# Altium integrated library Actel ProASIC.IntLib: 30 symbols (part 1 of 4)
Pins are listed as number, name and electrical type; pins without a type are passive.

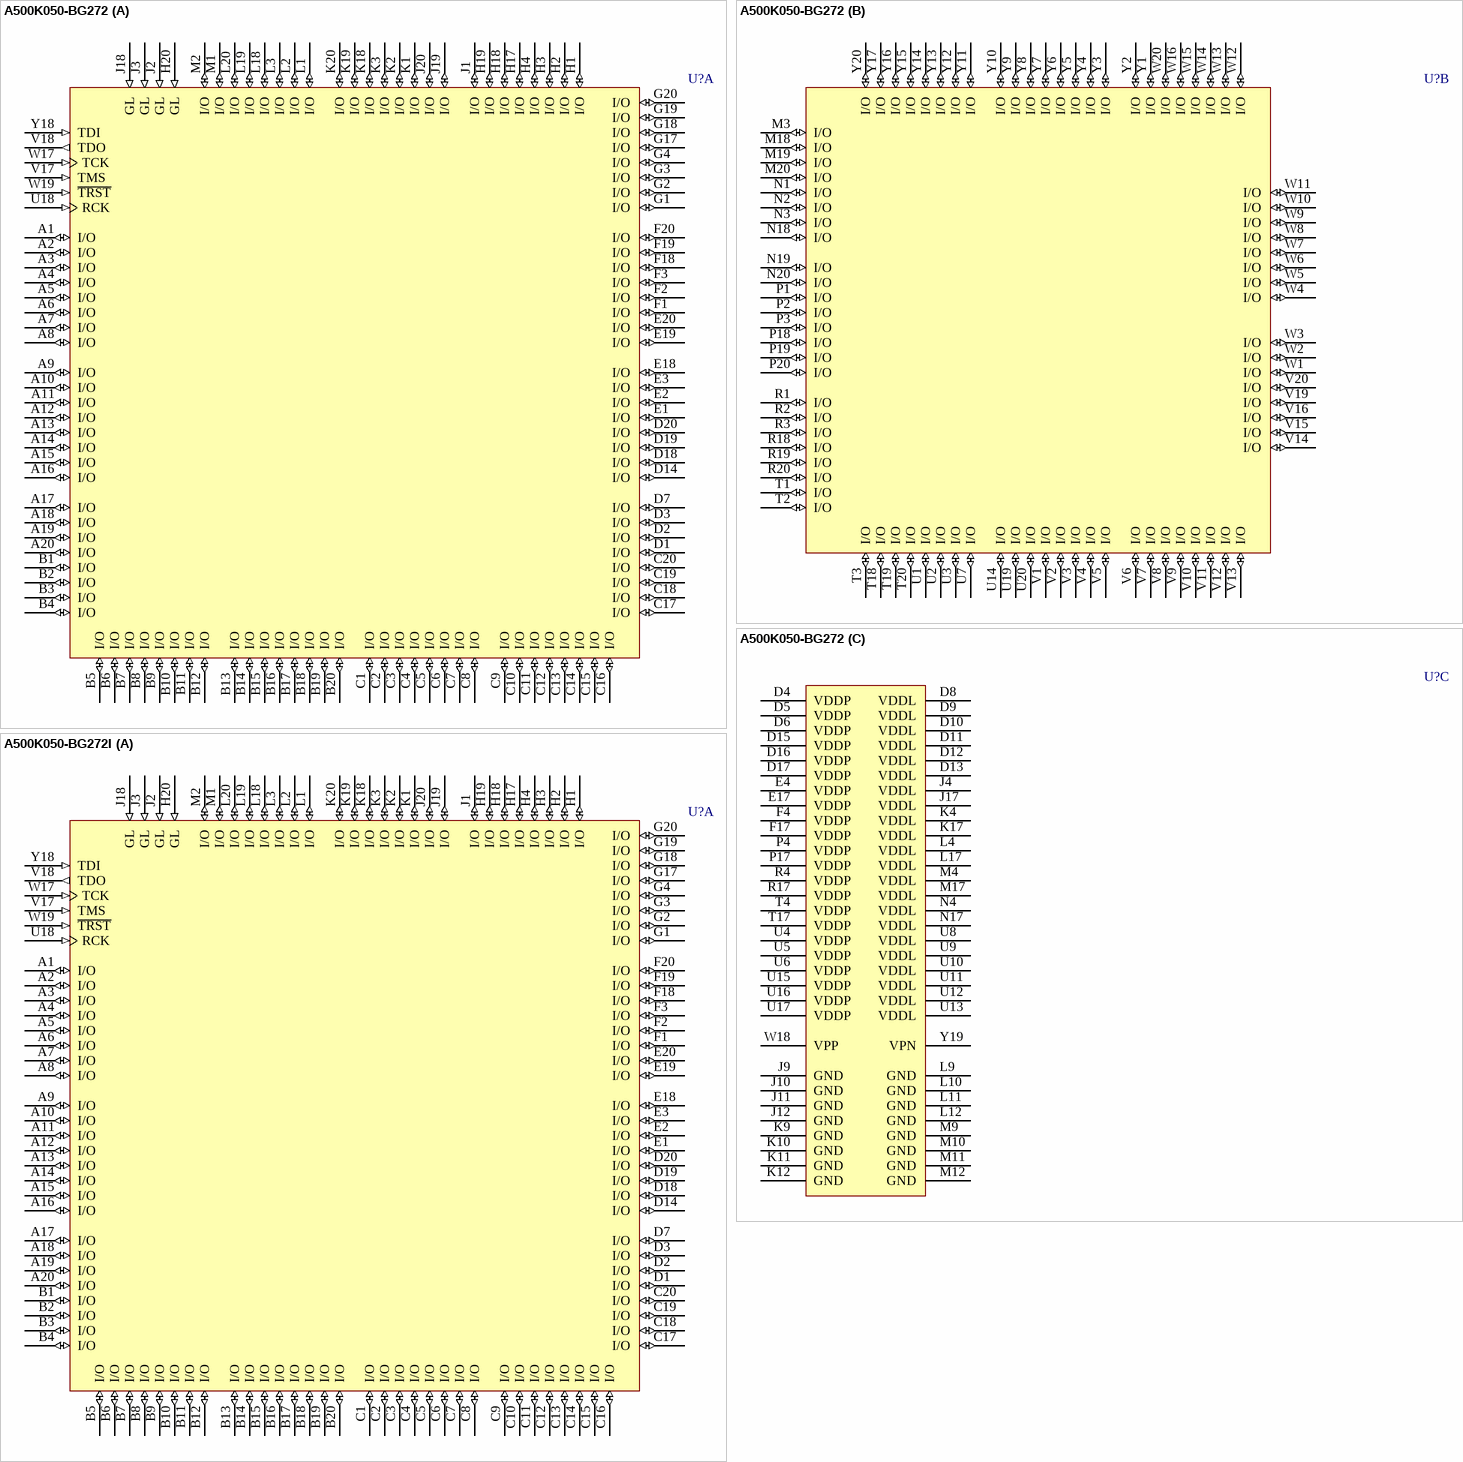
[diagram p0: symbols A500K050-BG272 to A500K050-BG272I]

## A500K050-BG272
designator U?
ProASIC 500K50, 204 User IOs, 272-Ball PBGA, Speed Grade Standard, Commercial Grade; ComponentAvailability: ProASIC 500K family discontinued.; Published: 21-May-2003; LatestRevisionDate: 13-Apr-2006; LatestRevisionNote: IPC-7351 Footprint Added.; DatasheetVersion: v3.0, Feb-2002; PackageVersion: ver11.2, Nov-2009; PackageReference: BG272; Publisher: Altium Limited; PackageDescription: 272-Ball Plastic Ball Grid Array (BG272); Code_JEDEC: MS-034-BAL-2; ComponentLink1Description: ProASIC Datasheet; ComponentLink1URL: http://www.actel.com/documents/ProASIC_DS.pdf; ComponentLink2Description: Package Mechanical Drawings; ComponentLink2URL: http://www.actel.com/documents/PckgMechDrwngs.pdf; ComponentLink3Description: ProASIC Documents; ComponentLink3URL: http://www.actel.com/products/discontinued/default.aspx#proasic; ComponentLink4Description: Actel.com Home; ComponentLink4URL: http://www.actel.com/
footprint BG272 (BGA, 272-Leads, Body 27x27mm, Pitch 1.27mm)
part A pins: A1 I/O (io), A2 I/O (io), A3 I/O (io), A4 I/O (io), A5 I/O (io), A6 I/O (io), A7 I/O (io), A8 I/O (io), A9 I/O (io), A10 I/O (io), A11 I/O (io), A12 I/O (io), A13 I/O (io), A14 I/O (io), A15 I/O (io), A16 I/O (io), A17 I/O (io), A18 I/O (io), A19 I/O (io), A20 I/O (io), B1 I/O (io), B2 I/O (io), B3 I/O (io), B4 I/O (io), B5 I/O (io), B6 I/O (io), B7 I/O (io), B8 I/O (io), B9 I/O (io), B10 I/O (io), B11 I/O (io), B12 I/O (io), B13 I/O (io), B14 I/O (io), B15 I/O (io), B16 I/O (io), B17 I/O (io), B18 I/O (io), B19 I/O (io), B20 I/O (io), C1 I/O (io), C2 I/O (io), C3 I/O (io), C4 I/O (io), C5 I/O (io), C6 I/O (io), C7 I/O (io), C8 I/O (io), C9 I/O (io), C10 I/O (io), C11 I/O (io), C12 I/O (io), C13 I/O (io), C14 I/O (io), C15 I/O (io), C16 I/O (io), C17 I/O (io), C18 I/O (io), C19 I/O (io), C20 I/O (io), D1 I/O (io), D2 I/O (io), D3 I/O (io), D7 I/O (io), D14 I/O (io), D18 I/O (io), D19 I/O (io), D20 I/O (io), E1 I/O (io), E2 I/O (io), E3 I/O (io), E18 I/O (io), E19 I/O (io), E20 I/O (io), F1 I/O (io), F2 I/O (io), F3 I/O (io), F18 I/O (io), F19 I/O (io), F20 I/O (io), G1 I/O (io), G2 I/O (io), G3 I/O (io), G4 I/O (io), G17 I/O (io), G18 I/O (io), G19 I/O (io), G20 I/O (io), H1 I/O (io), H2 I/O (io), H3 I/O (io), H4 I/O (io), H17 I/O (io), H18 I/O (io), H19 I/O (io), H20 GL (in), J1 I/O (io), J2 GL (in), J3 GL (in), J18 GL (in), J19 I/O (io), J20 I/O (io), K1 I/O (io), K2 I/O (io), K3 I/O (io), K18 I/O (io), K19 I/O (io), K20 I/O (io), L1 I/O (io), L2 I/O (io), L3 I/O (io), L18 I/O (io), L19 I/O (io), L20 I/O (io), M1 I/O (io), M2 I/O (io), U18 RCK (in), V17 TMS (in), V18 TDO (out), W17 TCK (in), W19 ~{TRST} (in), Y18 TDI (in)
part B pins: M3 I/O (io), M18 I/O (io), M19 I/O (io), M20 I/O (io), N1 I/O (io), N2 I/O (io), N3 I/O (io), N18 I/O (io), N19 I/O (io), N20 I/O (io), P1 I/O (io), P2 I/O (io), P3 I/O (io), P18 I/O (io), P19 I/O (io), P20 I/O (io), R1 I/O (io), R2 I/O (io), R3 I/O (io), R18 I/O (io), R19 I/O (io), R20 I/O (io), T1 I/O (io), T2 I/O (io), T3 I/O (io), T18 I/O (io), T19 I/O (io), T20 I/O (io), U1 I/O (io), U2 I/O (io), U3 I/O (io), U7 I/O (io), U14 I/O (io), U19 I/O (io), U20 I/O (io), V1 I/O (io), V2 I/O (io), V3 I/O (io), V4 I/O (io), V5 I/O (io), V6 I/O (io), V7 I/O (io), V8 I/O (io), V9 I/O (io), V10 I/O (io), V11 I/O (io), V12 I/O (io), V13 I/O (io), V14 I/O (io), V15 I/O (io), V16 I/O (io), V19 I/O (io), V20 I/O (io), W1 I/O (io), W2 I/O (io), W3 I/O (io), W4 I/O (io), W5 I/O (io), W6 I/O (io), W7 I/O (io), W8 I/O (io), W9 I/O (io), W10 I/O (io), W11 I/O (io), W12 I/O (io), W13 I/O (io), W14 I/O (io), W15 I/O (io), W16 I/O (io), W20 I/O (io), Y1 I/O (io), Y2 I/O (io), Y3 I/O (io), Y4 I/O (io), Y5 I/O (io), Y6 I/O (io), Y7 I/O (io), Y8 I/O (io), Y9 I/O (io), Y10 I/O (io), Y11 I/O (io), Y12 I/O (io), Y13 I/O (io), Y14 I/O (io), Y15 I/O (io), Y16 I/O (io), Y17 I/O (io), Y20 I/O (io)
part C pins: D4 VDDP (power), D5 VDDP (power), D6 VDDP (power), D8 VDDL (power), D9 VDDL (power), D10 VDDL (power), D11 VDDL (power), D12 VDDL (power), D13 VDDL (power), D15 VDDP (power), D16 VDDP (power), D17 VDDP (power), E4 VDDP (power), E17 VDDP (power), F4 VDDP (power), F17 VDDP (power), J4 VDDL (power), J9 GND (power), J10 GND (power), J11 GND (power), J12 GND (power), J17 VDDL (power), K4 VDDL (power), K9 GND (power), K10 GND (power), K11 GND (power), K12 GND (power), K17 VDDL (power), L4 VDDL (power), L9 GND (power), L10 GND (power), L11 GND (power), L12 GND (power), L17 VDDL (power), M4 VDDL (power), M9 GND (power), M10 GND (power), M11 GND (power), M12 GND (power), M17 VDDL (power), N4 VDDL (power), N17 VDDL (power), P4 VDDP (power), P17 VDDP (power), R4 VDDP (power), R17 VDDP (power), T4 VDDP (power), T17 VDDP (power), U4 VDDP (power), U5 VDDP (power), U6 VDDP (power), U8 VDDL (power), U9 VDDL (power), U10 VDDL (power), U11 VDDL (power), U12 VDDL (power), U13 VDDL (power), U15 VDDP (power), U16 VDDP (power), U17 VDDP (power), W18 VPP (power), Y19 VPN (power)

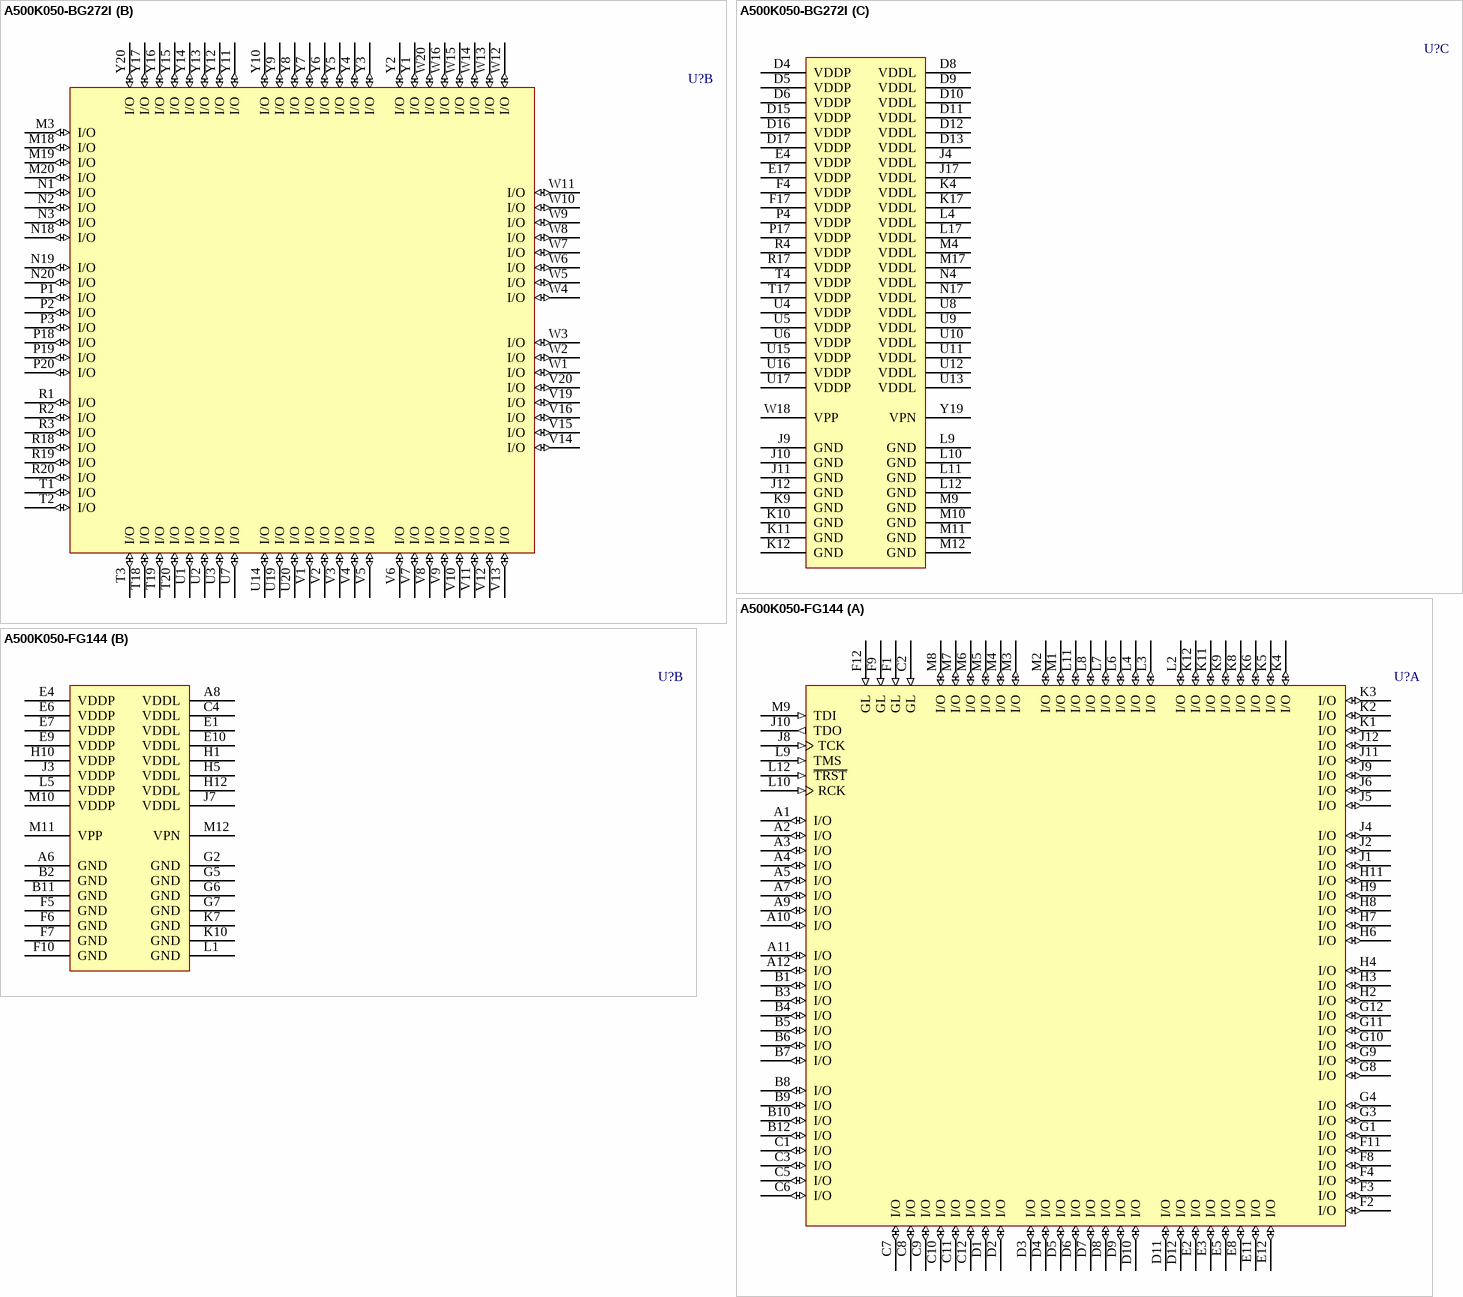
[diagram p1: symbols A500K050-BG272I to A500K050-FG144]

## A500K050-BG272I
designator U?
ProASIC 500K50, 204 User IOs, 272-Ball PBGA, Speed Grade Standard, Industrial Grade; ComponentAvailability: ProASIC 500K family discontinued.; Published: 21-May-2003; LatestRevisionDate: 13-Apr-2006; LatestRevisionNote: IPC-7351 Footprint Added.; DatasheetVersion: v3.0, Feb-2002; PackageVersion: ver11.2, Nov-2009; PackageReference: BG272; Publisher: Altium Limited; PackageDescription: 272-Ball Plastic Ball Grid Array (BG272); Code_JEDEC: MS-034-BAL-2; ComponentLink1Description: ProASIC Datasheet; ComponentLink1URL: http://www.actel.com/documents/ProASIC_DS.pdf; ComponentLink2Description: Package Mechanical Drawings; ComponentLink2URL: http://www.actel.com/documents/PckgMechDrwngs.pdf; ComponentLink3Description: ProASIC Documents; ComponentLink3URL: http://www.actel.com/products/discontinued/default.aspx#proasic; ComponentLink4Description: Actel.com Home; ComponentLink4URL: http://www.actel.com/
footprint BG272 (BGA, 272-Leads, Body 27x27mm, Pitch 1.27mm)
part A pins: A1 I/O (io), A2 I/O (io), A3 I/O (io), A4 I/O (io), A5 I/O (io), A6 I/O (io), A7 I/O (io), A8 I/O (io), A9 I/O (io), A10 I/O (io), A11 I/O (io), A12 I/O (io), A13 I/O (io), A14 I/O (io), A15 I/O (io), A16 I/O (io), A17 I/O (io), A18 I/O (io), A19 I/O (io), A20 I/O (io), B1 I/O (io), B2 I/O (io), B3 I/O (io), B4 I/O (io), B5 I/O (io), B6 I/O (io), B7 I/O (io), B8 I/O (io), B9 I/O (io), B10 I/O (io), B11 I/O (io), B12 I/O (io), B13 I/O (io), B14 I/O (io), B15 I/O (io), B16 I/O (io), B17 I/O (io), B18 I/O (io), B19 I/O (io), B20 I/O (io), C1 I/O (io), C2 I/O (io), C3 I/O (io), C4 I/O (io), C5 I/O (io), C6 I/O (io), C7 I/O (io), C8 I/O (io), C9 I/O (io), C10 I/O (io), C11 I/O (io), C12 I/O (io), C13 I/O (io), C14 I/O (io), C15 I/O (io), C16 I/O (io), C17 I/O (io), C18 I/O (io), C19 I/O (io), C20 I/O (io), D1 I/O (io), D2 I/O (io), D3 I/O (io), D7 I/O (io), D14 I/O (io), D18 I/O (io), D19 I/O (io), D20 I/O (io), E1 I/O (io), E2 I/O (io), E3 I/O (io), E18 I/O (io), E19 I/O (io), E20 I/O (io), F1 I/O (io), F2 I/O (io), F3 I/O (io), F18 I/O (io), F19 I/O (io), F20 I/O (io), G1 I/O (io), G2 I/O (io), G3 I/O (io), G4 I/O (io), G17 I/O (io), G18 I/O (io), G19 I/O (io), G20 I/O (io), H1 I/O (io), H2 I/O (io), H3 I/O (io), H4 I/O (io), H17 I/O (io), H18 I/O (io), H19 I/O (io), H20 GL (in), J1 I/O (io), J2 GL (in), J3 GL (in), J18 GL (in), J19 I/O (io), J20 I/O (io), K1 I/O (io), K2 I/O (io), K3 I/O (io), K18 I/O (io), K19 I/O (io), K20 I/O (io), L1 I/O (io), L2 I/O (io), L3 I/O (io), L18 I/O (io), L19 I/O (io), L20 I/O (io), M1 I/O (io), M2 I/O (io), U18 RCK (in), V17 TMS (in), V18 TDO (out), W17 TCK (in), W19 ~{TRST} (in), Y18 TDI (in)
part B pins: M3 I/O (io), M18 I/O (io), M19 I/O (io), M20 I/O (io), N1 I/O (io), N2 I/O (io), N3 I/O (io), N18 I/O (io), N19 I/O (io), N20 I/O (io), P1 I/O (io), P2 I/O (io), P3 I/O (io), P18 I/O (io), P19 I/O (io), P20 I/O (io), R1 I/O (io), R2 I/O (io), R3 I/O (io), R18 I/O (io), R19 I/O (io), R20 I/O (io), T1 I/O (io), T2 I/O (io), T3 I/O (io), T18 I/O (io), T19 I/O (io), T20 I/O (io), U1 I/O (io), U2 I/O (io), U3 I/O (io), U7 I/O (io), U14 I/O (io), U19 I/O (io), U20 I/O (io), V1 I/O (io), V2 I/O (io), V3 I/O (io), V4 I/O (io), V5 I/O (io), V6 I/O (io), V7 I/O (io), V8 I/O (io), V9 I/O (io), V10 I/O (io), V11 I/O (io), V12 I/O (io), V13 I/O (io), V14 I/O (io), V15 I/O (io), V16 I/O (io), V19 I/O (io), V20 I/O (io), W1 I/O (io), W2 I/O (io), W3 I/O (io), W4 I/O (io), W5 I/O (io), W6 I/O (io), W7 I/O (io), W8 I/O (io), W9 I/O (io), W10 I/O (io), W11 I/O (io), W12 I/O (io), W13 I/O (io), W14 I/O (io), W15 I/O (io), W16 I/O (io), W20 I/O (io), Y1 I/O (io), Y2 I/O (io), Y3 I/O (io), Y4 I/O (io), Y5 I/O (io), Y6 I/O (io), Y7 I/O (io), Y8 I/O (io), Y9 I/O (io), Y10 I/O (io), Y11 I/O (io), Y12 I/O (io), Y13 I/O (io), Y14 I/O (io), Y15 I/O (io), Y16 I/O (io), Y17 I/O (io), Y20 I/O (io)
part C pins: D4 VDDP (power), D5 VDDP (power), D6 VDDP (power), D8 VDDL (power), D9 VDDL (power), D10 VDDL (power), D11 VDDL (power), D12 VDDL (power), D13 VDDL (power), D15 VDDP (power), D16 VDDP (power), D17 VDDP (power), E4 VDDP (power), E17 VDDP (power), F4 VDDP (power), F17 VDDP (power), J4 VDDL (power), J9 GND (power), J10 GND (power), J11 GND (power), J12 GND (power), J17 VDDL (power), K4 VDDL (power), K9 GND (power), K10 GND (power), K11 GND (power), K12 GND (power), K17 VDDL (power), L4 VDDL (power), L9 GND (power), L10 GND (power), L11 GND (power), L12 GND (power), L17 VDDL (power), M4 VDDL (power), M9 GND (power), M10 GND (power), M11 GND (power), M12 GND (power), M17 VDDL (power), N4 VDDL (power), N17 VDDL (power), P4 VDDP (power), P17 VDDP (power), R4 VDDP (power), R17 VDDP (power), T4 VDDP (power), T17 VDDP (power), U4 VDDP (power), U5 VDDP (power), U6 VDDP (power), U8 VDDL (power), U9 VDDL (power), U10 VDDL (power), U11 VDDL (power), U12 VDDL (power), U13 VDDL (power), U15 VDDP (power), U16 VDDP (power), U17 VDDP (power), W18 VPP (power), Y19 VPN (power)

## A500K050-FG144
designator U?
ProASIC 500K50, 106 User IOs, 144-Ball FBGA, Speed Grade Standard, Commercial Grade; ComponentAvailability: ProASIC 500K family discontinued.; Published: 21-May-2003; LatestRevisionDate: 13-Apr-2006; LatestRevisionNote: IPC-7351 Footprint Added.; DatasheetVersion: v3.0, Feb-2002; PackageVersion: ver11.2, Nov-2009; PackageReference: FG144; Publisher: Altium Limited; PackageDescription: 144-Ball Fine Pitch Plastic Ball Grid Array (FG144); Code_JEDEC: MO-192-DAD-1; ComponentLink1Description: ProASIC Datasheet; ComponentLink1URL: http://www.actel.com/documents/ProASIC_DS.pdf; ComponentLink2Description: Package Mechanical Drawings; ComponentLink2URL: http://www.actel.com/documents/PckgMechDrwngs.pdf; ComponentLink3Description: ProASIC Documents; ComponentLink3URL: http://www.actel.com/products/discontinued/default.aspx#proasic; ComponentLink4Description: Actel.com Home; ComponentLink4URL: http://www.actel.com/
footprint FG144 (BGA, 144-Leads, Body 13x13mm, Pitch 1mm)
part A pins: A1 I/O (io), A2 I/O (io), A3 I/O (io), A4 I/O (io), A5 I/O (io), A7 I/O (io), A9 I/O (io), A10 I/O (io), A11 I/O (io), A12 I/O (io), B1 I/O (io), B3 I/O (io), B4 I/O (io), B5 I/O (io), B6 I/O (io), B7 I/O (io), B8 I/O (io), B9 I/O (io), B10 I/O (io), B12 I/O (io), C1 I/O (io), C2 GL (in), C3 I/O (io), C5 I/O (io), C6 I/O (io), C7 I/O (io), C8 I/O (io), C9 I/O (io), C10 I/O (io), C11 I/O (io), C12 I/O (io), D1 I/O (io), D2 I/O (io), D3 I/O (io), D4 I/O (io), D5 I/O (io), D6 I/O (io), D7 I/O (io), D8 I/O (io), D9 I/O (io), D10 I/O (io), D11 I/O (io), D12 I/O (io), E2 I/O (io), E3 I/O (io), E5 I/O (io), E8 I/O (io), E11 I/O (io), E12 I/O (io), F1 GL (in), F2 I/O (io), F3 I/O (io), F4 I/O (io), F8 I/O (io), F9 GL (in), F11 I/O (io), F12 GL (in), G1 I/O (io), G3 I/O (io), G4 I/O (io), G8 I/O (io), G9 I/O (io), G10 I/O (io), G11 I/O (io), G12 I/O (io), H2 I/O (io), H3 I/O (io), H4 I/O (io), H6 I/O (io), H7 I/O (io), H8 I/O (io), H9 I/O (io), H11 I/O (io), J1 I/O (io), J2 I/O (io), J4 I/O (io), J5 I/O (io), J6 I/O (io), J8 TCK (in), J9 I/O (io), J10 TDO (out), J11 I/O (io), J12 I/O (io), K1 I/O (io), K2 I/O (io), K3 I/O (io), K4 I/O (io), K5 I/O (io), K6 I/O (io), K8 I/O (io), K9 I/O (io), K11 I/O (io), K12 I/O (io), L2 I/O (io), L3 I/O (io), L4 I/O (io), L6 I/O (io), L7 I/O (io), L8 I/O (io), L9 TMS (in), L10 RCK (in), L11 I/O (io), L12 ~{TRST} (in), M1 I/O (io), M2 I/O (io), M3 I/O (io), M4 I/O (io), M5 I/O (io), M6 I/O (io), M7 I/O (io), M8 I/O (io), M9 TDI (in)
part B pins: A6 GND (power), A8 VDDL (power), B2 GND (power), B11 GND (power), C4 VDDL (power), E1 VDDL (power), E4 VDDP (power), E6 VDDP (power), E7 VDDP (power), E9 VDDP (power), E10 VDDL (power), F5 GND (power), F6 GND (power), F7 GND (power), F10 GND (power), G2 GND (power), G5 GND (power), G6 GND (power), G7 GND (power), H1 VDDL (power), H5 VDDL (power), H10 VDDP (power), H12 VDDL (power), J3 VDDP (power), J7 VDDL (power), K7 GND (power), K10 GND (power), L1 GND (power), L5 VDDP (power), M10 VDDP (power), M11 VPP (power), M12 VPN (power)

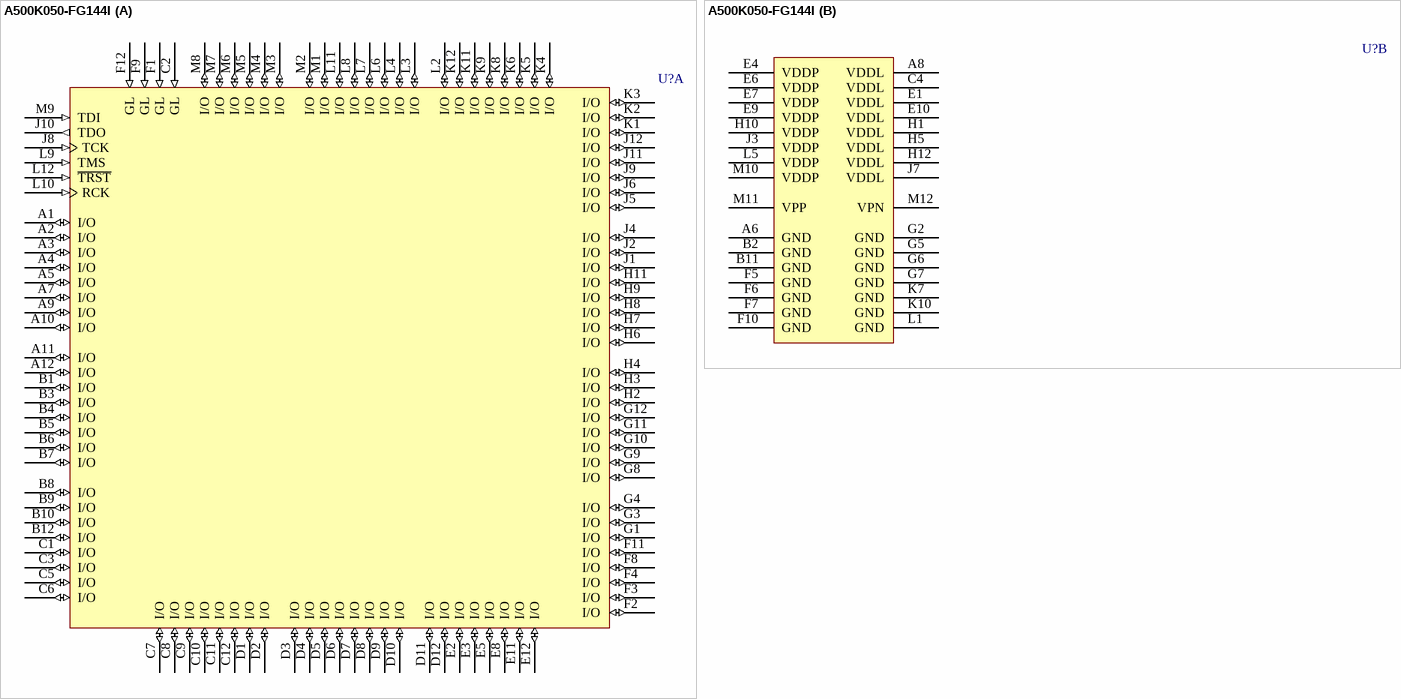
[diagram p2: symbol A500K050-FG144I]

## A500K050-FG144I
designator U?
ProASIC 500K50, 106 User IOs, 144-Ball FBGA, Speed Grade Standard, Industrial Grade; ComponentAvailability: ProASIC 500K family discontinued.; Published: 21-May-2003; LatestRevisionDate: 13-Apr-2006; LatestRevisionNote: IPC-7351 Footprint Added.; DatasheetVersion: v3.0, Feb-2002; PackageVersion: ver11.2, Nov-2009; PackageReference: FG144; Publisher: Altium Limited; PackageDescription: 144-Ball Fine Pitch Plastic Ball Grid Array (FG144); Code_JEDEC: MO-192-DAD-1; ComponentLink1Description: ProASIC Datasheet; ComponentLink1URL: http://www.actel.com/documents/ProASIC_DS.pdf; ComponentLink2Description: Package Mechanical Drawings; ComponentLink2URL: http://www.actel.com/documents/PckgMechDrwngs.pdf; ComponentLink3Description: ProASIC Documents; ComponentLink3URL: http://www.actel.com/products/discontinued/default.aspx#proasic; ComponentLink4Description: Actel.com Home; ComponentLink4URL: http://www.actel.com/
footprint FG144 (BGA, 144-Leads, Body 13x13mm, Pitch 1mm)
part A pins: A1 I/O (io), A2 I/O (io), A3 I/O (io), A4 I/O (io), A5 I/O (io), A7 I/O (io), A9 I/O (io), A10 I/O (io), A11 I/O (io), A12 I/O (io), B1 I/O (io), B3 I/O (io), B4 I/O (io), B5 I/O (io), B6 I/O (io), B7 I/O (io), B8 I/O (io), B9 I/O (io), B10 I/O (io), B12 I/O (io), C1 I/O (io), C2 GL (in), C3 I/O (io), C5 I/O (io), C6 I/O (io), C7 I/O (io), C8 I/O (io), C9 I/O (io), C10 I/O (io), C11 I/O (io), C12 I/O (io), D1 I/O (io), D2 I/O (io), D3 I/O (io), D4 I/O (io), D5 I/O (io), D6 I/O (io), D7 I/O (io), D8 I/O (io), D9 I/O (io), D10 I/O (io), D11 I/O (io), D12 I/O (io), E2 I/O (io), E3 I/O (io), E5 I/O (io), E8 I/O (io), E11 I/O (io), E12 I/O (io), F1 GL (in), F2 I/O (io), F3 I/O (io), F4 I/O (io), F8 I/O (io), F9 GL (in), F11 I/O (io), F12 GL (in), G1 I/O (io), G3 I/O (io), G4 I/O (io), G8 I/O (io), G9 I/O (io), G10 I/O (io), G11 I/O (io), G12 I/O (io), H2 I/O (io), H3 I/O (io), H4 I/O (io), H6 I/O (io), H7 I/O (io), H8 I/O (io), H9 I/O (io), H11 I/O (io), J1 I/O (io), J2 I/O (io), J4 I/O (io), J5 I/O (io), J6 I/O (io), J8 TCK (in), J9 I/O (io), J10 TDO (out), J11 I/O (io), J12 I/O (io), K1 I/O (io), K2 I/O (io), K3 I/O (io), K4 I/O (io), K5 I/O (io), K6 I/O (io), K8 I/O (io), K9 I/O (io), K11 I/O (io), K12 I/O (io), L2 I/O (io), L3 I/O (io), L4 I/O (io), L6 I/O (io), L7 I/O (io), L8 I/O (io), L9 TMS (in), L10 RCK (in), L11 I/O (io), L12 ~{TRST} (in), M1 I/O (io), M2 I/O (io), M3 I/O (io), M4 I/O (io), M5 I/O (io), M6 I/O (io), M7 I/O (io), M8 I/O (io), M9 TDI (in)
part B pins: A6 GND (power), A8 VDDL (power), B2 GND (power), B11 GND (power), C4 VDDL (power), E1 VDDL (power), E4 VDDP (power), E6 VDDP (power), E7 VDDP (power), E9 VDDP (power), E10 VDDL (power), F5 GND (power), F6 GND (power), F7 GND (power), F10 GND (power), G2 GND (power), G5 GND (power), G6 GND (power), G7 GND (power), H1 VDDL (power), H5 VDDL (power), H10 VDDP (power), H12 VDDL (power), J3 VDDP (power), J7 VDDL (power), K7 GND (power), K10 GND (power), L1 GND (power), L5 VDDP (power), M10 VDDP (power), M11 VPP (power), M12 VPN (power)

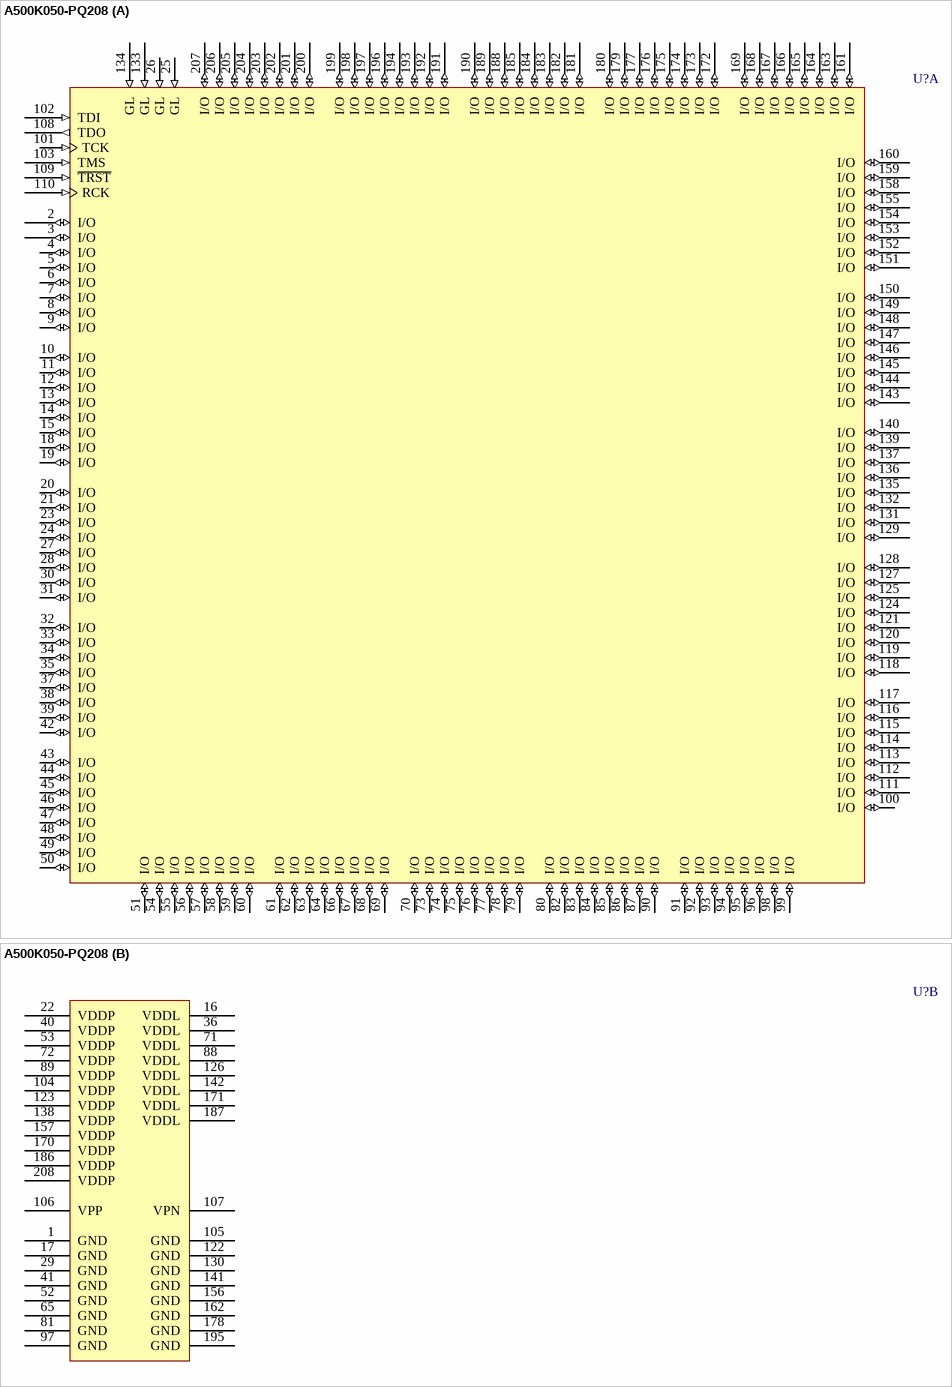
[diagram p3: symbol A500K050-PQ208]

## A500K050-PQ208
designator U?
ProASIC 500K050, 164 User IOs, 208-Pin PQFP, Speed Grade Standard, Commercial Grade; ComponentAvailability: ProASIC 500K family discontinued.; Published: 21-May-2003; LatestRevisionDate: 13-Apr-2006; LatestRevisionNote: IPC-7351 Footprint Added.; DatasheetVersion: v3.0, Feb-2002; PackageVersion: ver11.2, Nov-2009; PackageReference: PQ208; Publisher: Altium Limited; PackageDescription: 208-Pin Plastic Quad Flat Pack (PQ208); Code_JEDEC: MS-029-FA-1; ComponentLink1Description: ProASIC Datasheet; ComponentLink1URL: http://www.actel.com/documents/ProASIC_DS.pdf; ComponentLink2Description: Package Mechanical Drawings; ComponentLink2URL: http://www.actel.com/documents/PckgMechDrwngs.pdf; ComponentLink3Description: ProASIC Documents; ComponentLink3URL: http://www.actel.com/products/discontinued/default.aspx#proasic; ComponentLink4Description: Actel.com Home; ComponentLink4URL: http://www.actel.com/
footprint PQ208_N (Shrink QFP, 208-Leads, Body 28x28mm, Pitch 0.5mm, IPC Medium Density)
footprint PQ208_L (Shrink QFP, 208-Leads, Body 28x28mm, Pitch 0.5mm, IPC High Density)
footprint PQ208_M (Shrink QFP, 208-Leads, Body 28x28mm, Pitch 0.5mm, IPC Low Density)
part A pins: 2 I/O (io), 3 I/O (io), 4 I/O (io), 5 I/O (io), 6 I/O (io), 7 I/O (io), 8 I/O (io), 9 I/O (io), 10 I/O (io), 11 I/O (io), 12 I/O (io), 13 I/O (io), 14 I/O (io), 15 I/O (io), 18 I/O (io), 19 I/O (io), 20 I/O (io), 21 I/O (io), 23 I/O (io), 24 I/O (io), 25 GL (in), 26 GL (in), 27 I/O (io), 28 I/O (io), 30 I/O (io), 31 I/O (io), 32 I/O (io), 33 I/O (io), 34 I/O (io), 35 I/O (io), 37 I/O (io), 38 I/O (io), 39 I/O (io), 42 I/O (io), 43 I/O (io), 44 I/O (io), 45 I/O (io), 46 I/O (io), 47 I/O (io), 48 I/O (io), 49 I/O (io), 50 I/O (io), 51 I/O (io), 54 I/O (io), 55 I/O (io), 56 I/O (io), 57 I/O (io), 58 I/O (io), 59 I/O (io), 60 I/O (io), 61 I/O (io), 62 I/O (io), 63 I/O (io), 64 I/O (io), 66 I/O (io), 67 I/O (io), 68 I/O (io), 69 I/O (io), 70 I/O (io), 73 I/O (io), 74 I/O (io), 75 I/O (io), 76 I/O (io), 77 I/O (io), 78 I/O (io), 79 I/O (io), 80 I/O (io), 82 I/O (io), 83 I/O (io), 84 I/O (io), 85 I/O (io), 86 I/O (io), 87 I/O (io), 90 I/O (io), 91 I/O (io), 92 I/O (io), 93 I/O (io), 94 I/O (io), 95 I/O (io), 96 I/O (io), 98 I/O (io), 99 I/O (io), 100 I/O (io), 101 TCK (in), 102 TDI (in), 103 TMS (in), 108 TDO (out), 109 ~{TRST} (in), 110 RCK (in), 111 I/O (io), 112 I/O (io), 113 I/O (io), 114 I/O (io), 115 I/O (io), 116 I/O (io), 117 I/O (io), 118 I/O (io), 119 I/O (io), 120 I/O (io), 121 I/O (io), 124 I/O (io), 125 I/O (io), 127 I/O (io), 128 I/O (io), 129 I/O (io), 131 I/O (io), 132 I/O (io), 133 GL (in), 134 GL (in), 135 I/O (io), 136 I/O (io), 137 I/O (io), 139 I/O (io), 140 I/O (io), 143 I/O (io), 144 I/O (io), 145 I/O (io), 146 I/O (io), 147 I/O (io), 148 I/O (io), 149 I/O (io), 150 I/O (io), 151 I/O (io), 152 I/O (io), 153 I/O (io), 154 I/O (io), 155 I/O (io), 158 I/O (io), 159 I/O (io), 160 I/O (io), 161 I/O (io), 163 I/O (io), 164 I/O (io), 165 I/O (io), 166 I/O (io), 167 I/O (io), 168 I/O (io), 169 I/O (io), 172 I/O (io), 173 I/O (io), 174 I/O (io), 175 I/O (io), 176 I/O (io), 177 I/O (io), 179 I/O (io), 180 I/O (io), 181 I/O (io), 182 I/O (io), 183 I/O (io), 184 I/O (io), 185 I/O (io), 188 I/O (io), 189 I/O (io), 190 I/O (io), 191 I/O (io), 192 I/O (io), 193 I/O (io), 194 I/O (io), 196 I/O (io), 197 I/O (io), 198 I/O (io), 199 I/O (io), 200 I/O (io), 201 I/O (io), 202 I/O (io), 203 I/O (io), 204 I/O (io), 205 I/O (io), 206 I/O (io), 207 I/O (io)
part B pins: 1 GND (power), 16 VDDL (power), 17 GND (power), 22 VDDP (power), 29 GND (power), 36 VDDL (power), 40 VDDP (power), 41 GND (power), 52 GND (power), 53 VDDP (power), 65 GND (power), 71 VDDL (power), 72 VDDP (power), 81 GND (power), 88 VDDL (power), 89 VDDP (power), 97 GND (power), 104 VDDP (power), 105 GND (power), 106 VPP (power), 107 VPN (power), 122 GND (power), 123 VDDP (power), 126 VDDL (power), 130 GND (power), 138 VDDP (power), 141 GND (power), 142 VDDL (power), 156 GND (power), 157 VDDP (power), 162 GND (power), 170 VDDP (power), 171 VDDL (power), 178 GND (power), 186 VDDP (power), 187 VDDL (power), 195 GND (power), 208 VDDP (power)

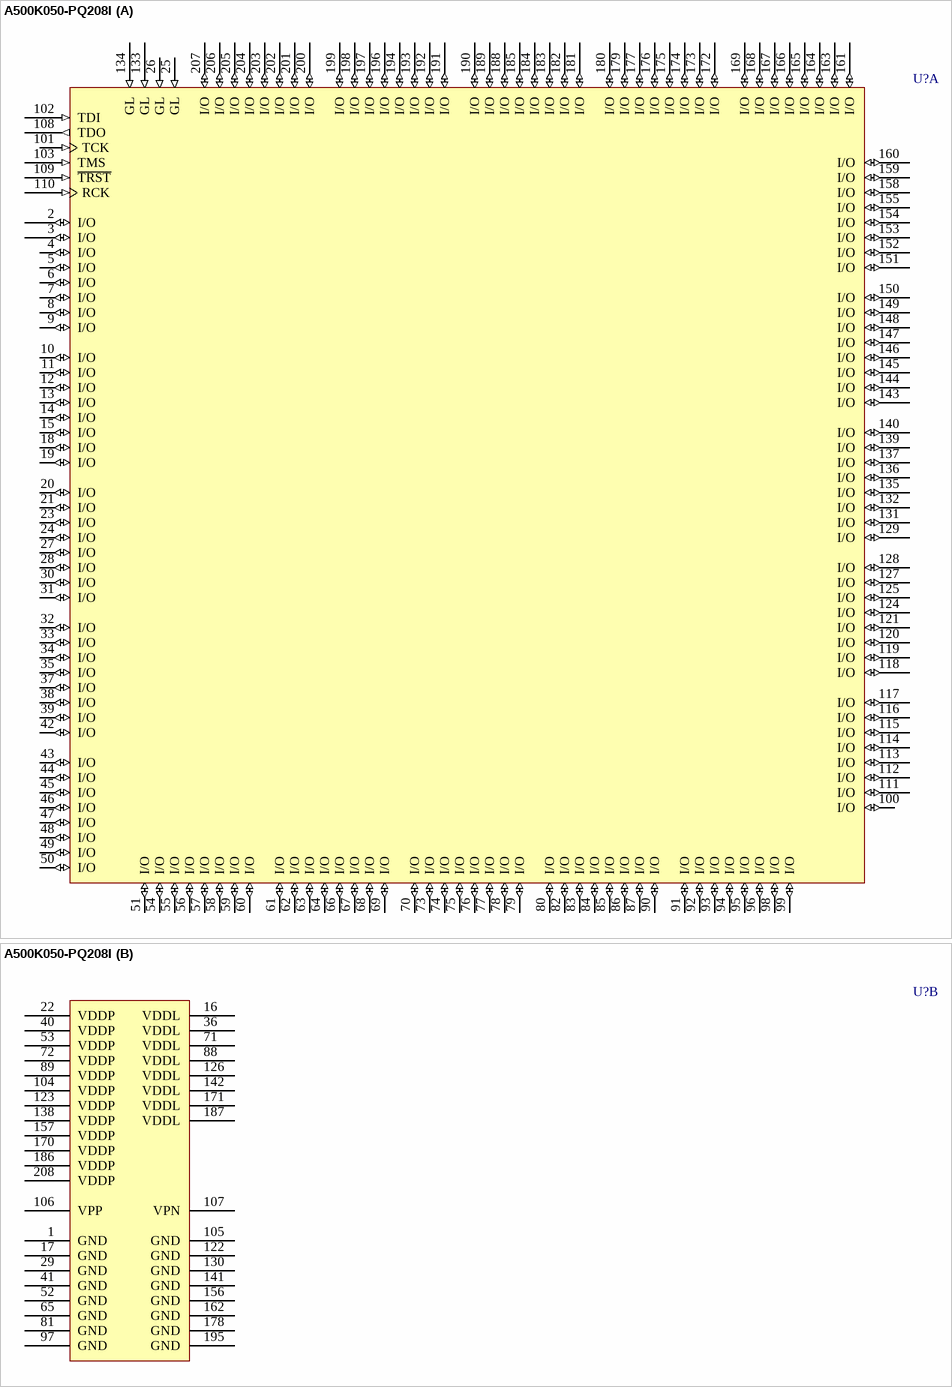
[diagram p4: symbol A500K050-PQ208I]

## A500K050-PQ208I
designator U?
ProASIC 500K50, 164 User IOs, 208-Pin PQFP, Speed Grade Standard, Industrial Grade; ComponentAvailability: ProASIC 500K family discontinued.; Published: 21-May-2003; LatestRevisionDate: 13-Apr-2006; LatestRevisionNote: IPC-7351 Footprint Added.; DatasheetVersion: v3.0, Feb-2002; PackageVersion: ver11.2, Nov-2009; PackageReference: PQ208; Publisher: Altium Limited; PackageDescription: 208-Pin Plastic Quad Flat Pack (PQ208); Code_JEDEC: MS-029-FA-1; ComponentLink1Description: ProASIC Datasheet; ComponentLink1URL: http://www.actel.com/documents/ProASIC_DS.pdf; ComponentLink2Description: Package Mechanical Drawings; ComponentLink2URL: http://www.actel.com/documents/PckgMechDrwngs.pdf; ComponentLink3Description: ProASIC Documents; ComponentLink3URL: http://www.actel.com/products/discontinued/default.aspx#proasic; ComponentLink4Description: Actel.com Home; ComponentLink4URL: http://www.actel.com/
footprint PQ208_N (Shrink QFP, 208-Leads, Body 28x28mm, Pitch 0.5mm, IPC Medium Density)
footprint PQ208_L (Shrink QFP, 208-Leads, Body 28x28mm, Pitch 0.5mm, IPC High Density)
footprint PQ208_M (Shrink QFP, 208-Leads, Body 28x28mm, Pitch 0.5mm, IPC Low Density)
part A pins: 2 I/O (io), 3 I/O (io), 4 I/O (io), 5 I/O (io), 6 I/O (io), 7 I/O (io), 8 I/O (io), 9 I/O (io), 10 I/O (io), 11 I/O (io), 12 I/O (io), 13 I/O (io), 14 I/O (io), 15 I/O (io), 18 I/O (io), 19 I/O (io), 20 I/O (io), 21 I/O (io), 23 I/O (io), 24 I/O (io), 25 GL (in), 26 GL (in), 27 I/O (io), 28 I/O (io), 30 I/O (io), 31 I/O (io), 32 I/O (io), 33 I/O (io), 34 I/O (io), 35 I/O (io), 37 I/O (io), 38 I/O (io), 39 I/O (io), 42 I/O (io), 43 I/O (io), 44 I/O (io), 45 I/O (io), 46 I/O (io), 47 I/O (io), 48 I/O (io), 49 I/O (io), 50 I/O (io), 51 I/O (io), 54 I/O (io), 55 I/O (io), 56 I/O (io), 57 I/O (io), 58 I/O (io), 59 I/O (io), 60 I/O (io), 61 I/O (io), 62 I/O (io), 63 I/O (io), 64 I/O (io), 66 I/O (io), 67 I/O (io), 68 I/O (io), 69 I/O (io), 70 I/O (io), 73 I/O (io), 74 I/O (io), 75 I/O (io), 76 I/O (io), 77 I/O (io), 78 I/O (io), 79 I/O (io), 80 I/O (io), 82 I/O (io), 83 I/O (io), 84 I/O (io), 85 I/O (io), 86 I/O (io), 87 I/O (io), 90 I/O (io), 91 I/O (io), 92 I/O (io), 93 I/O (io), 94 I/O (io), 95 I/O (io), 96 I/O (io), 98 I/O (io), 99 I/O (io), 100 I/O (io), 101 TCK (in), 102 TDI (in), 103 TMS (in), 108 TDO (out), 109 ~{TRST} (in), 110 RCK (in), 111 I/O (io), 112 I/O (io), 113 I/O (io), 114 I/O (io), 115 I/O (io), 116 I/O (io), 117 I/O (io), 118 I/O (io), 119 I/O (io), 120 I/O (io), 121 I/O (io), 124 I/O (io), 125 I/O (io), 127 I/O (io), 128 I/O (io), 129 I/O (io), 131 I/O (io), 132 I/O (io), 133 GL (in), 134 GL (in), 135 I/O (io), 136 I/O (io), 137 I/O (io), 139 I/O (io), 140 I/O (io), 143 I/O (io), 144 I/O (io), 145 I/O (io), 146 I/O (io), 147 I/O (io), 148 I/O (io), 149 I/O (io), 150 I/O (io), 151 I/O (io), 152 I/O (io), 153 I/O (io), 154 I/O (io), 155 I/O (io), 158 I/O (io), 159 I/O (io), 160 I/O (io), 161 I/O (io), 163 I/O (io), 164 I/O (io), 165 I/O (io), 166 I/O (io), 167 I/O (io), 168 I/O (io), 169 I/O (io), 172 I/O (io), 173 I/O (io), 174 I/O (io), 175 I/O (io), 176 I/O (io), 177 I/O (io), 179 I/O (io), 180 I/O (io), 181 I/O (io), 182 I/O (io), 183 I/O (io), 184 I/O (io), 185 I/O (io), 188 I/O (io), 189 I/O (io), 190 I/O (io), 191 I/O (io), 192 I/O (io), 193 I/O (io), 194 I/O (io), 196 I/O (io), 197 I/O (io), 198 I/O (io), 199 I/O (io), 200 I/O (io), 201 I/O (io), 202 I/O (io), 203 I/O (io), 204 I/O (io), 205 I/O (io), 206 I/O (io), 207 I/O (io)
part B pins: 1 GND (power), 16 VDDL (power), 17 GND (power), 22 VDDP (power), 29 GND (power), 36 VDDL (power), 40 VDDP (power), 41 GND (power), 52 GND (power), 53 VDDP (power), 65 GND (power), 71 VDDL (power), 72 VDDP (power), 81 GND (power), 88 VDDL (power), 89 VDDP (power), 97 GND (power), 104 VDDP (power), 105 GND (power), 106 VPP (power), 107 VPN (power), 122 GND (power), 123 VDDP (power), 126 VDDL (power), 130 GND (power), 138 VDDP (power), 141 GND (power), 142 VDDL (power), 156 GND (power), 157 VDDP (power), 162 GND (power), 170 VDDP (power), 171 VDDL (power), 178 GND (power), 186 VDDP (power), 187 VDDL (power), 195 GND (power), 208 VDDP (power)

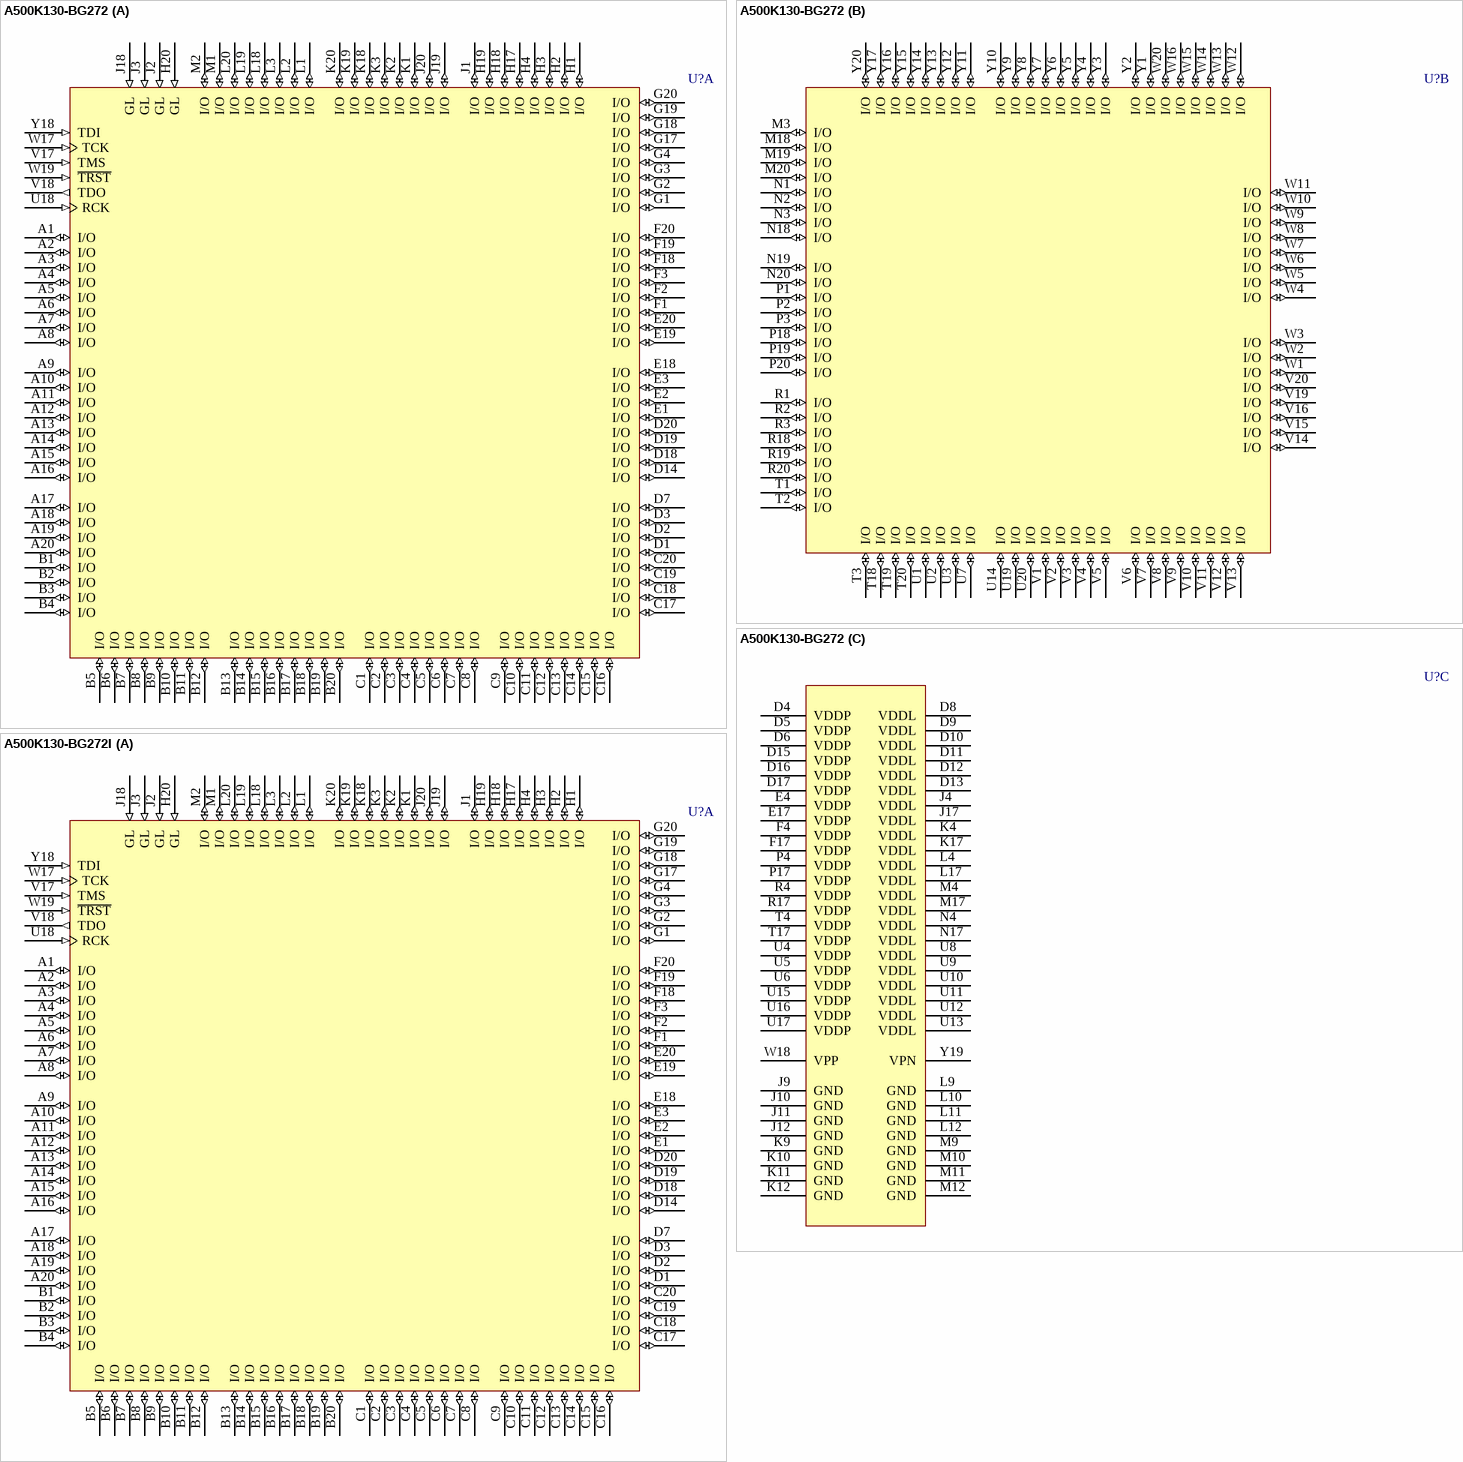
[diagram p5: symbols A500K130-BG272 to A500K130-BG272I]

## A500K130-BG272
designator U?
ProASIC 500K130, 204 User IOs, 272-Ball PBGA, Speed Grade Standard, Commercial Grade; ComponentAvailability: ProASIC 500K family discontinued.; Published: 21-May-2003; LatestRevisionDate: 13-Apr-2006; LatestRevisionNote: IPC-7351 Footprint Added.; DatasheetVersion: v3.0, Feb-2002; PackageVersion: ver11.2, Nov-2009; PackageReference: BG272; Publisher: Altium Limited; PackageDescription: 272-Ball Plastic Ball Grid Array (BG272); Code_JEDEC: MS-034-BAL-2; ComponentLink1Description: ProASIC Datasheet; ComponentLink1URL: http://www.actel.com/documents/ProASIC_DS.pdf; ComponentLink2Description: Package Mechanical Drawings; ComponentLink2URL: http://www.actel.com/documents/PckgMechDrwngs.pdf; ComponentLink3Description: ProASIC Documents; ComponentLink3URL: http://www.actel.com/products/discontinued/default.aspx#proasic; ComponentLink4Description: Actel.com Home; ComponentLink4URL: http://www.actel.com/
footprint BG272 (BGA, 272-Leads, Body 27x27mm, Pitch 1.27mm)
part A pins: A1 I/O (io), A2 I/O (io), A3 I/O (io), A4 I/O (io), A5 I/O (io), A6 I/O (io), A7 I/O (io), A8 I/O (io), A9 I/O (io), A10 I/O (io), A11 I/O (io), A12 I/O (io), A13 I/O (io), A14 I/O (io), A15 I/O (io), A16 I/O (io), A17 I/O (io), A18 I/O (io), A19 I/O (io), A20 I/O (io), B1 I/O (io), B2 I/O (io), B3 I/O (io), B4 I/O (io), B5 I/O (io), B6 I/O (io), B7 I/O (io), B8 I/O (io), B9 I/O (io), B10 I/O (io), B11 I/O (io), B12 I/O (io), B13 I/O (io), B14 I/O (io), B15 I/O (io), B16 I/O (io), B17 I/O (io), B18 I/O (io), B19 I/O (io), B20 I/O (io), C1 I/O (io), C2 I/O (io), C3 I/O (io), C4 I/O (io), C5 I/O (io), C6 I/O (io), C7 I/O (io), C8 I/O (io), C9 I/O (io), C10 I/O (io), C11 I/O (io), C12 I/O (io), C13 I/O (io), C14 I/O (io), C15 I/O (io), C16 I/O (io), C17 I/O (io), C18 I/O (io), C19 I/O (io), C20 I/O (io), D1 I/O (io), D2 I/O (io), D3 I/O (io), D7 I/O (io), D14 I/O (io), D18 I/O (io), D19 I/O (io), D20 I/O (io), E1 I/O (io), E2 I/O (io), E3 I/O (io), E18 I/O (io), E19 I/O (io), E20 I/O (io), F1 I/O (io), F2 I/O (io), F3 I/O (io), F18 I/O (io), F19 I/O (io), F20 I/O (io), G1 I/O (io), G2 I/O (io), G3 I/O (io), G4 I/O (io), G17 I/O (io), G18 I/O (io), G19 I/O (io), G20 I/O (io), H1 I/O (io), H2 I/O (io), H3 I/O (io), H4 I/O (io), H17 I/O (io), H18 I/O (io), H19 I/O (io), H20 GL (in), J1 I/O (io), J2 GL (in), J3 GL (in), J18 GL (in), J19 I/O (io), J20 I/O (io), K1 I/O (io), K2 I/O (io), K3 I/O (io), K18 I/O (io), K19 I/O (io), K20 I/O (io), L1 I/O (io), L2 I/O (io), L3 I/O (io), L18 I/O (io), L19 I/O (io), L20 I/O (io), M1 I/O (io), M2 I/O (io), U18 RCK (in), V17 TMS (in), V18 TDO (out), W17 TCK (in), W19 ~{TRST} (in), Y18 TDI (in)
part B pins: M3 I/O (io), M18 I/O (io), M19 I/O (io), M20 I/O (io), N1 I/O (io), N2 I/O (io), N3 I/O (io), N18 I/O (io), N19 I/O (io), N20 I/O (io), P1 I/O (io), P2 I/O (io), P3 I/O (io), P18 I/O (io), P19 I/O (io), P20 I/O (io), R1 I/O (io), R2 I/O (io), R3 I/O (io), R18 I/O (io), R19 I/O (io), R20 I/O (io), T1 I/O (io), T2 I/O (io), T3 I/O (io), T18 I/O (io), T19 I/O (io), T20 I/O (io), U1 I/O (io), U2 I/O (io), U3 I/O (io), U7 I/O (io), U14 I/O (io), U19 I/O (io), U20 I/O (io), V1 I/O (io), V2 I/O (io), V3 I/O (io), V4 I/O (io), V5 I/O (io), V6 I/O (io), V7 I/O (io), V8 I/O (io), V9 I/O (io), V10 I/O (io), V11 I/O (io), V12 I/O (io), V13 I/O (io), V14 I/O (io), V15 I/O (io), V16 I/O (io), V19 I/O (io), V20 I/O (io), W1 I/O (io), W2 I/O (io), W3 I/O (io), W4 I/O (io), W5 I/O (io), W6 I/O (io), W7 I/O (io), W8 I/O (io), W9 I/O (io), W10 I/O (io), W11 I/O (io), W12 I/O (io), W13 I/O (io), W14 I/O (io), W15 I/O (io), W16 I/O (io), W20 I/O (io), Y1 I/O (io), Y2 I/O (io), Y3 I/O (io), Y4 I/O (io), Y5 I/O (io), Y6 I/O (io), Y7 I/O (io), Y8 I/O (io), Y9 I/O (io), Y10 I/O (io), Y11 I/O (io), Y12 I/O (io), Y13 I/O (io), Y14 I/O (io), Y15 I/O (io), Y16 I/O (io), Y17 I/O (io), Y20 I/O (io)
part C pins: D4 VDDP (power), D5 VDDP (power), D6 VDDP (power), D8 VDDL (power), D9 VDDL (power), D10 VDDL (power), D11 VDDL (power), D12 VDDL (power), D13 VDDL (power), D15 VDDP (power), D16 VDDP (power), D17 VDDP (power), E4 VDDP (power), E17 VDDP (power), F4 VDDP (power), F17 VDDP (power), J4 VDDL (power), J9 GND (power), J10 GND (power), J11 GND (power), J12 GND (power), J17 VDDL (power), K4 VDDL (power), K9 GND (power), K10 GND (power), K11 GND (power), K12 GND (power), K17 VDDL (power), L4 VDDL (power), L9 GND (power), L10 GND (power), L11 GND (power), L12 GND (power), L17 VDDL (power), M4 VDDL (power), M9 GND (power), M10 GND (power), M11 GND (power), M12 GND (power), M17 VDDL (power), N4 VDDL (power), N17 VDDL (power), P4 VDDP (power), P17 VDDP (power), R4 VDDP (power), R17 VDDP (power), T4 VDDP (power), T17 VDDP (power), U4 VDDP (power), U5 VDDP (power), U6 VDDP (power), U8 VDDL (power), U9 VDDL (power), U10 VDDL (power), U11 VDDL (power), U12 VDDL (power), U13 VDDL (power), U15 VDDP (power), U16 VDDP (power), U17 VDDP (power), W18 VPP (power), Y19 VPN (power)

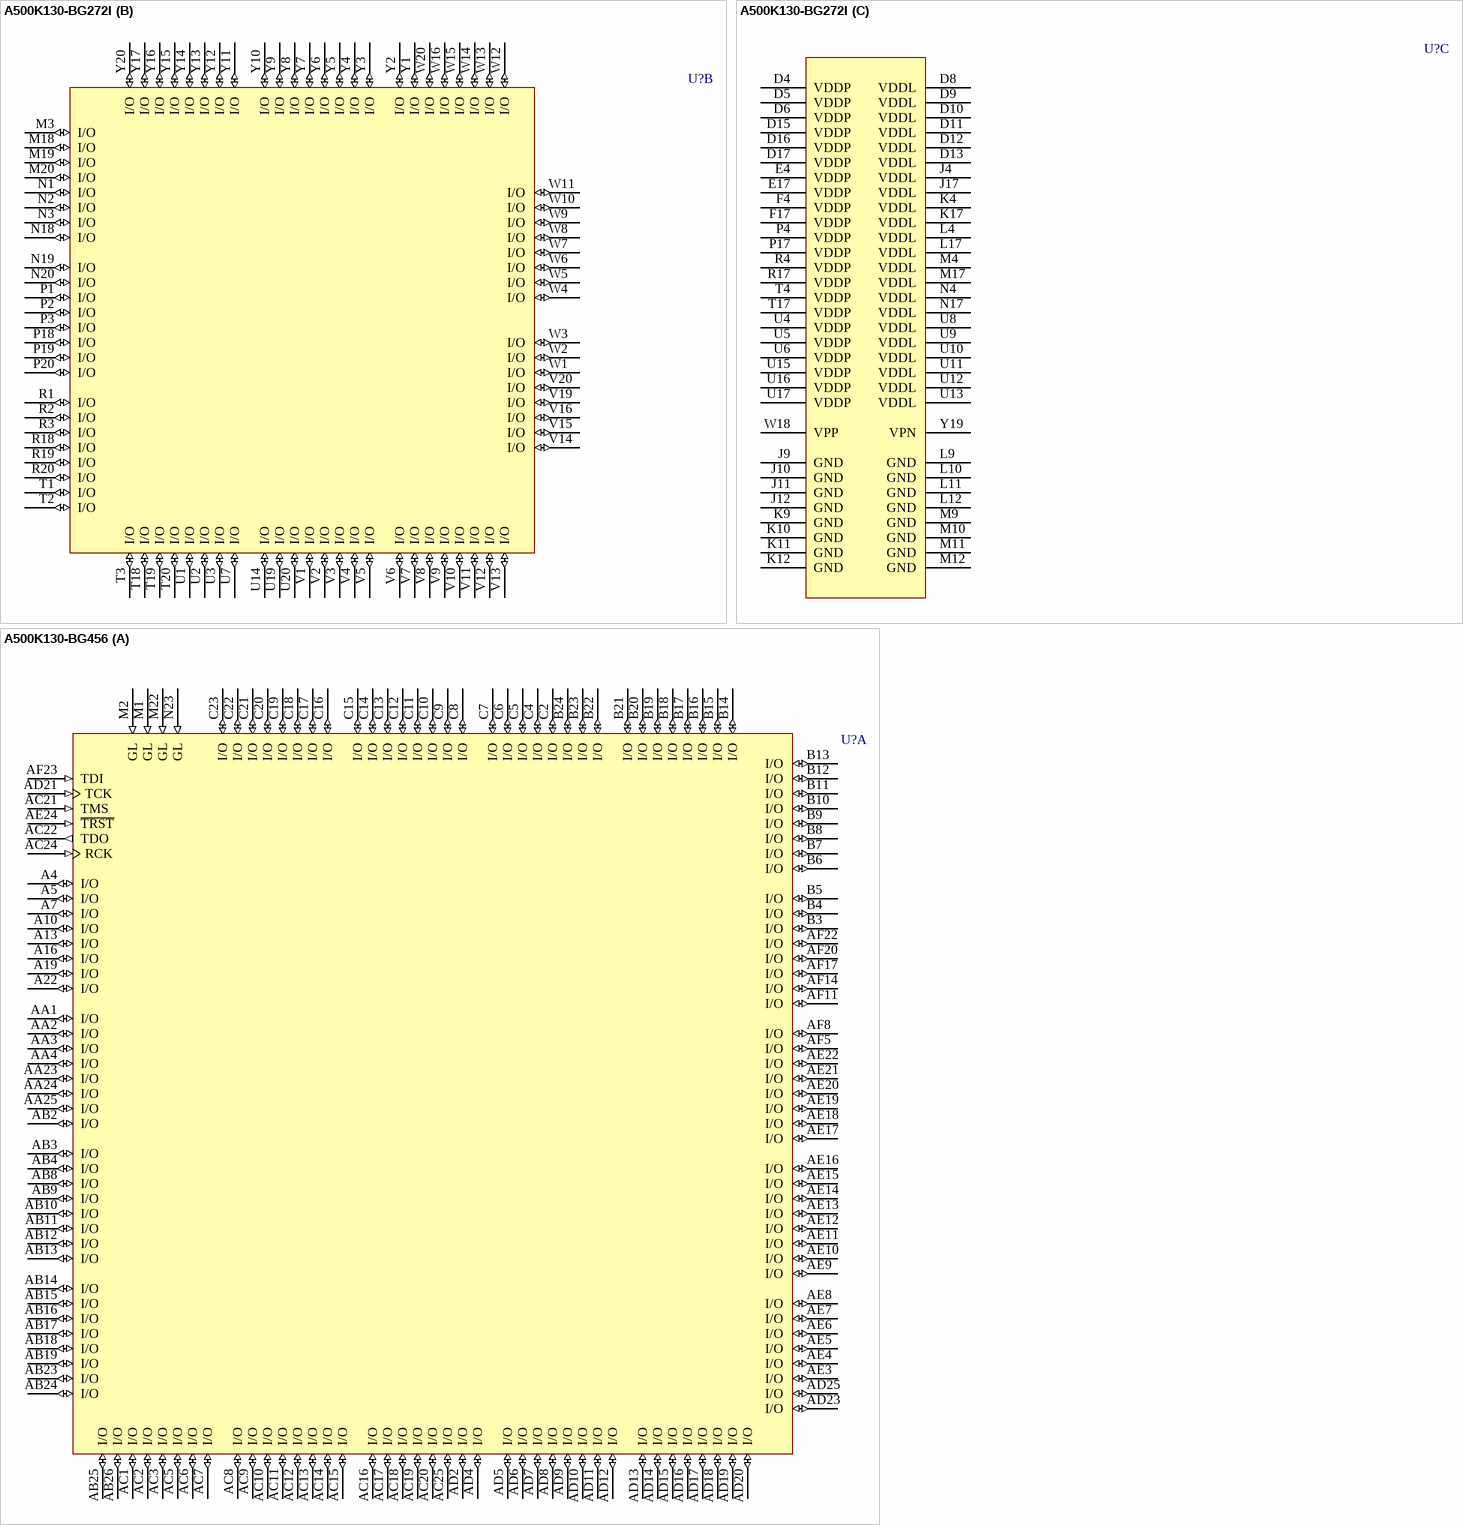
[diagram p6: symbols A500K130-BG272I to A500K130-BG456]

## A500K130-BG272I
designator U?
ProASIC 500K130, 204 User IOs, 272-Ball PBGA, Speed Grade Standard, Industrial Grade; ComponentAvailability: ProASIC 500K family discontinued.; Published: 21-May-2003; LatestRevisionDate: 13-Apr-2006; LatestRevisionNote: IPC-7351 Footprint Added.; DatasheetVersion: v3.0, Feb-2002; PackageVersion: ver11.2, Nov-2009; PackageReference: BG272; Publisher: Altium Limited; PackageDescription: 272-Ball Plastic Ball Grid Array (BG272); Code_JEDEC: MS-034-BAL-2; ComponentLink1Description: ProASIC Datasheet; ComponentLink1URL: http://www.actel.com/documents/ProASIC_DS.pdf; ComponentLink2Description: Package Mechanical Drawings; ComponentLink2URL: http://www.actel.com/documents/PckgMechDrwngs.pdf; ComponentLink3Description: ProASIC Documents; ComponentLink3URL: http://www.actel.com/products/discontinued/default.aspx#proasic; ComponentLink4Description: Actel.com Home; ComponentLink4URL: http://www.actel.com/
footprint BG272 (BGA, 272-Leads, Body 27x27mm, Pitch 1.27mm)
part A pins: A1 I/O (io), A2 I/O (io), A3 I/O (io), A4 I/O (io), A5 I/O (io), A6 I/O (io), A7 I/O (io), A8 I/O (io), A9 I/O (io), A10 I/O (io), A11 I/O (io), A12 I/O (io), A13 I/O (io), A14 I/O (io), A15 I/O (io), A16 I/O (io), A17 I/O (io), A18 I/O (io), A19 I/O (io), A20 I/O (io), B1 I/O (io), B2 I/O (io), B3 I/O (io), B4 I/O (io), B5 I/O (io), B6 I/O (io), B7 I/O (io), B8 I/O (io), B9 I/O (io), B10 I/O (io), B11 I/O (io), B12 I/O (io), B13 I/O (io), B14 I/O (io), B15 I/O (io), B16 I/O (io), B17 I/O (io), B18 I/O (io), B19 I/O (io), B20 I/O (io), C1 I/O (io), C2 I/O (io), C3 I/O (io), C4 I/O (io), C5 I/O (io), C6 I/O (io), C7 I/O (io), C8 I/O (io), C9 I/O (io), C10 I/O (io), C11 I/O (io), C12 I/O (io), C13 I/O (io), C14 I/O (io), C15 I/O (io), C16 I/O (io), C17 I/O (io), C18 I/O (io), C19 I/O (io), C20 I/O (io), D1 I/O (io), D2 I/O (io), D3 I/O (io), D7 I/O (io), D14 I/O (io), D18 I/O (io), D19 I/O (io), D20 I/O (io), E1 I/O (io), E2 I/O (io), E3 I/O (io), E18 I/O (io), E19 I/O (io), E20 I/O (io), F1 I/O (io), F2 I/O (io), F3 I/O (io), F18 I/O (io), F19 I/O (io), F20 I/O (io), G1 I/O (io), G2 I/O (io), G3 I/O (io), G4 I/O (io), G17 I/O (io), G18 I/O (io), G19 I/O (io), G20 I/O (io), H1 I/O (io), H2 I/O (io), H3 I/O (io), H4 I/O (io), H17 I/O (io), H18 I/O (io), H19 I/O (io), H20 GL (in), J1 I/O (io), J2 GL (in), J3 GL (in), J18 GL (in), J19 I/O (io), J20 I/O (io), K1 I/O (io), K2 I/O (io), K3 I/O (io), K18 I/O (io), K19 I/O (io), K20 I/O (io), L1 I/O (io), L2 I/O (io), L3 I/O (io), L18 I/O (io), L19 I/O (io), L20 I/O (io), M1 I/O (io), M2 I/O (io), U18 RCK (in), V17 TMS (in), V18 TDO (out), W17 TCK (in), W19 ~{TRST} (in), Y18 TDI (in)
part B pins: M3 I/O (io), M18 I/O (io), M19 I/O (io), M20 I/O (io), N1 I/O (io), N2 I/O (io), N3 I/O (io), N18 I/O (io), N19 I/O (io), N20 I/O (io), P1 I/O (io), P2 I/O (io), P3 I/O (io), P18 I/O (io), P19 I/O (io), P20 I/O (io), R1 I/O (io), R2 I/O (io), R3 I/O (io), R18 I/O (io), R19 I/O (io), R20 I/O (io), T1 I/O (io), T2 I/O (io), T3 I/O (io), T18 I/O (io), T19 I/O (io), T20 I/O (io), U1 I/O (io), U2 I/O (io), U3 I/O (io), U7 I/O (io), U14 I/O (io), U19 I/O (io), U20 I/O (io), V1 I/O (io), V2 I/O (io), V3 I/O (io), V4 I/O (io), V5 I/O (io), V6 I/O (io), V7 I/O (io), V8 I/O (io), V9 I/O (io), V10 I/O (io), V11 I/O (io), V12 I/O (io), V13 I/O (io), V14 I/O (io), V15 I/O (io), V16 I/O (io), V19 I/O (io), V20 I/O (io), W1 I/O (io), W2 I/O (io), W3 I/O (io), W4 I/O (io), W5 I/O (io), W6 I/O (io), W7 I/O (io), W8 I/O (io), W9 I/O (io), W10 I/O (io), W11 I/O (io), W12 I/O (io), W13 I/O (io), W14 I/O (io), W15 I/O (io), W16 I/O (io), W20 I/O (io), Y1 I/O (io), Y2 I/O (io), Y3 I/O (io), Y4 I/O (io), Y5 I/O (io), Y6 I/O (io), Y7 I/O (io), Y8 I/O (io), Y9 I/O (io), Y10 I/O (io), Y11 I/O (io), Y12 I/O (io), Y13 I/O (io), Y14 I/O (io), Y15 I/O (io), Y16 I/O (io), Y17 I/O (io), Y20 I/O (io)
part C pins: D4 VDDP (power), D5 VDDP (power), D6 VDDP (power), D8 VDDL (power), D9 VDDL (power), D10 VDDL (power), D11 VDDL (power), D12 VDDL (power), D13 VDDL (power), D15 VDDP (power), D16 VDDP (power), D17 VDDP (power), E4 VDDP (power), E17 VDDP (power), F4 VDDP (power), F17 VDDP (power), J4 VDDL (power), J9 GND (power), J10 GND (power), J11 GND (power), J12 GND (power), J17 VDDL (power), K4 VDDL (power), K9 GND (power), K10 GND (power), K11 GND (power), K12 GND (power), K17 VDDL (power), L4 VDDL (power), L9 GND (power), L10 GND (power), L11 GND (power), L12 GND (power), L17 VDDL (power), M4 VDDL (power), M9 GND (power), M10 GND (power), M11 GND (power), M12 GND (power), M17 VDDL (power), N4 VDDL (power), N17 VDDL (power), P4 VDDP (power), P17 VDDP (power), R4 VDDP (power), R17 VDDP (power), T4 VDDP (power), T17 VDDP (power), U4 VDDP (power), U5 VDDP (power), U6 VDDP (power), U8 VDDL (power), U9 VDDL (power), U10 VDDL (power), U11 VDDL (power), U12 VDDL (power), U13 VDDL (power), U15 VDDP (power), U16 VDDP (power), U17 VDDP (power), W18 VPP (power), Y19 VPN (power)

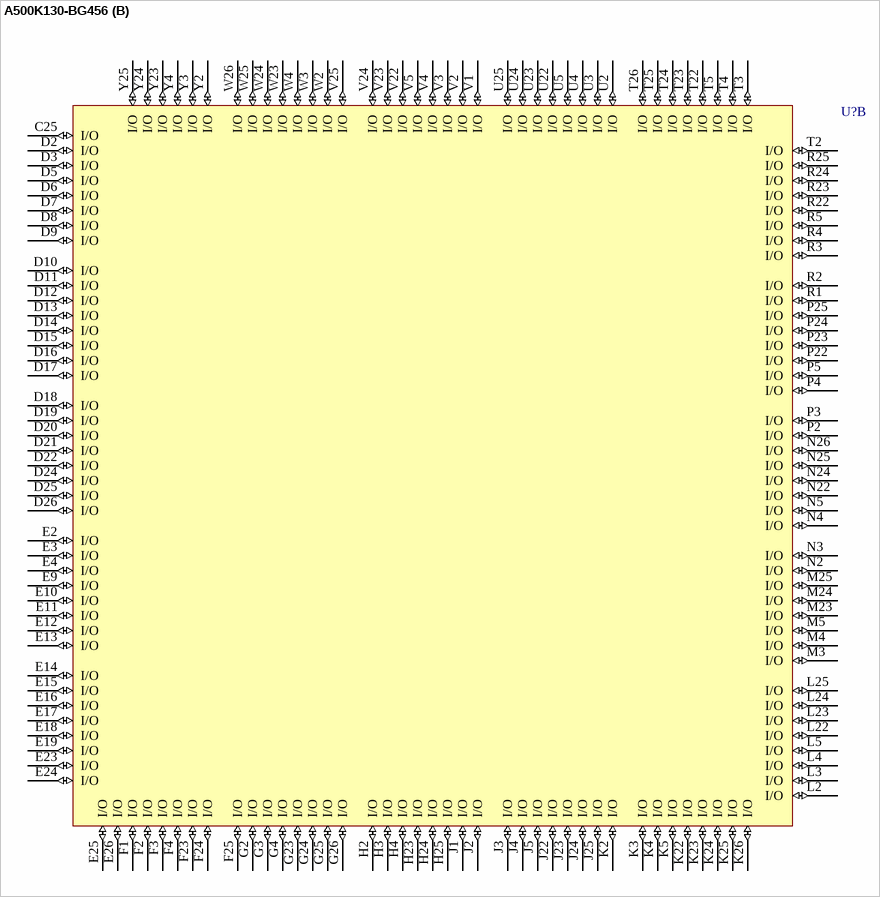
[diagram p7: symbol A500K130-BG456]

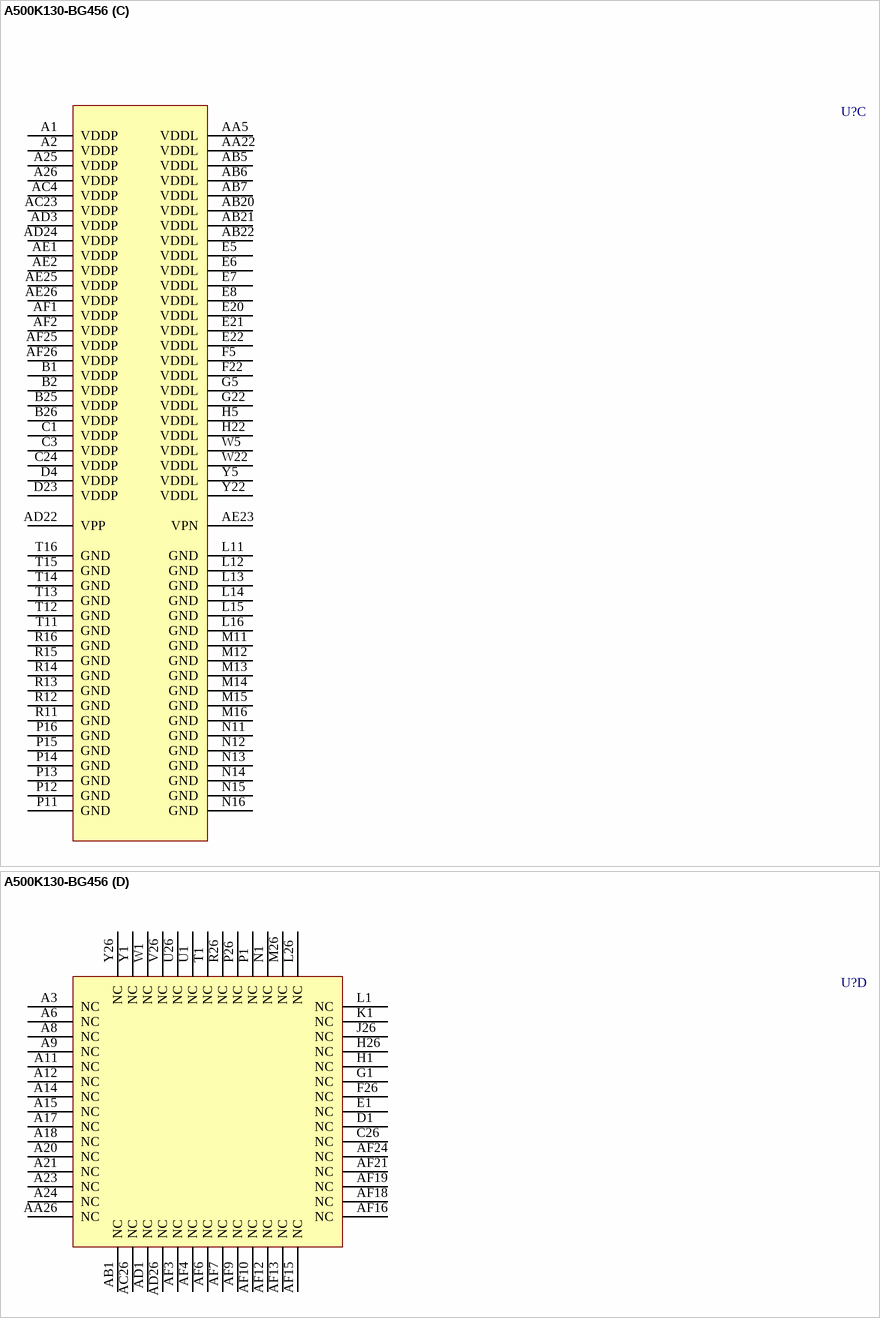
[diagram p8: symbol A500K130-BG456]

## A500K130-BG456
designator U?
ProASIC 500K130, 306 User IOs, 456-Ball PBGA, Speed Grade Standard, Commercial Grade; ComponentAvailability: ProASIC 500K family discontinued.; Published: 21-May-2003; LatestRevisionDate: 13-Apr-2006; LatestRevisionNote: IPC-7351 Footprint Added.; DatasheetVersion: v3.0, Feb-2002; PackageVersion: ver11.2, Nov-2009; PackageReference: BG456; Publisher: Altium Limited; PackageDescription: 456-Ball Plastic Ball Grid Array (BG456); Code_JEDEC: MS-034-BAR-2; ComponentLink1Description: ProASIC Datasheet; ComponentLink1URL: http://www.actel.com/documents/ProASIC_DS.pdf; ComponentLink2Description: Package Mechanical Drawings; ComponentLink2URL: http://www.actel.com/documents/PckgMechDrwngs.pdf; ComponentLink3Description: ProASIC Documents; ComponentLink3URL: http://www.actel.com/products/discontinued/default.aspx#proasic; ComponentLink4Description: Actel.com Home; ComponentLink4URL: http://www.actel.com/
footprint BG456 (BGA, 456-Leads, Body 35x35mm, Pitch 1.27mm)
part A pins: A4 I/O (io), A5 I/O (io), A7 I/O (io), A10 I/O (io), A13 I/O (io), A16 I/O (io), A19 I/O (io), A22 I/O (io), AA1 I/O (io), AA2 I/O (io), AA3 I/O (io), AA4 I/O (io), AA23 I/O (io), AA24 I/O (io), AA25 I/O (io), AB2 I/O (io), AB3 I/O (io), AB4 I/O (io), AB8 I/O (io), AB9 I/O (io), AB10 I/O (io), AB11 I/O (io), AB12 I/O (io), AB13 I/O (io), AB14 I/O (io), AB15 I/O (io), AB16 I/O (io), AB17 I/O (io), AB18 I/O (io), AB19 I/O (io), AB23 I/O (io), AB24 I/O (io), AB25 I/O (io), AB26 I/O (io), AC1 I/O (io), AC2 I/O (io), AC3 I/O (io), AC5 I/O (io), AC6 I/O (io), AC7 I/O (io), AC8 I/O (io), AC9 I/O (io), AC10 I/O (io), AC11 I/O (io), AC12 I/O (io), AC13 I/O (io), AC14 I/O (io), AC15 I/O (io), AC16 I/O (io), AC17 I/O (io), AC18 I/O (io), AC19 I/O (io), AC20 I/O (io), AC21 TMS (in), AC22 TDO (out), AC24 RCK (in), AC25 I/O (io), AD2 I/O (io), AD4 I/O (io), AD5 I/O (io), AD6 I/O (io), AD7 I/O (io), AD8 I/O (io), AD9 I/O (io), AD10 I/O (io), AD11 I/O (io), AD12 I/O (io), AD13 I/O (io), AD14 I/O (io), AD15 I/O (io), AD16 I/O (io), AD17 I/O (io), AD18 I/O (io), AD19 I/O (io), AD20 I/O (io), AD21 TCK (in), AD23 I/O (io), AD25 I/O (io), AE3 I/O (io), AE4 I/O (io), AE5 I/O (io), AE6 I/O (io), AE7 I/O (io), AE8 I/O (io), AE9 I/O (io), AE10 I/O (io), AE11 I/O (io), AE12 I/O (io), AE13 I/O (io), AE14 I/O (io), AE15 I/O (io), AE16 I/O (io), AE17 I/O (io), AE18 I/O (io), AE19 I/O (io), AE20 I/O (io), AE21 I/O (io), AE22 I/O (io), AE24 ~{TRST} (in), AF5 I/O (io), AF8 I/O (io), AF11 I/O (io), AF14 I/O (io), AF17 I/O (io), AF20 I/O (io), AF22 I/O (io), AF23 TDI (in), B3 I/O (io), B4 I/O (io), B5 I/O (io), B6 I/O (io), B7 I/O (io), B8 I/O (io), B9 I/O (io), B10 I/O (io), B11 I/O (io), B12 I/O (io), B13 I/O (io), B14 I/O (io), B15 I/O (io), B16 I/O (io), B17 I/O (io), B18 I/O (io), B19 I/O (io), B20 I/O (io), B21 I/O (io), B22 I/O (io), B23 I/O (io), B24 I/O (io), C2 I/O (io), C4 I/O (io), C5 I/O (io), C6 I/O (io), C7 I/O (io), C8 I/O (io), C9 I/O (io), C10 I/O (io), C11 I/O (io), C12 I/O (io), C13 I/O (io), C14 I/O (io), C15 I/O (io), C16 I/O (io), C17 I/O (io), C18 I/O (io), C19 I/O (io), C20 I/O (io), C21 I/O (io), C22 I/O (io), C23 I/O (io), M1 GL (in), M2 GL (in), M22 GL (in), N23 GL (in)
part B pins: C25 I/O (io), D2 I/O (io), D3 I/O (io), D5 I/O (io), D6 I/O (io), D7 I/O (io), D8 I/O (io), D9 I/O (io), D10 I/O (io), D11 I/O (io), D12 I/O (io), D13 I/O (io), D14 I/O (io), D15 I/O (io), D16 I/O (io), D17 I/O (io), D18 I/O (io), D19 I/O (io), D20 I/O (io), D21 I/O (io), D22 I/O (io), D24 I/O (io), D25 I/O (io), D26 I/O (io), E2 I/O (io), E3 I/O (io), E4 I/O (io), E9 I/O (io), E10 I/O (io), E11 I/O (io), E12 I/O (io), E13 I/O (io), E14 I/O (io), E15 I/O (io), E16 I/O (io), E17 I/O (io), E18 I/O (io), E19 I/O (io), E23 I/O (io), E24 I/O (io), E25 I/O (io), E26 I/O (io), F1 I/O (io), F2 I/O (io), F3 I/O (io), F4 I/O (io), F23 I/O (io), F24 I/O (io), F25 I/O (io), G2 I/O (io), G3 I/O (io), G4 I/O (io), G23 I/O (io), G24 I/O (io), G25 I/O (io), G26 I/O (io), H2 I/O (io), H3 I/O (io), H4 I/O (io), H23 I/O (io), H24 I/O (io), H25 I/O (io), J1 I/O (io), J2 I/O (io), J3 I/O (io), J4 I/O (io), J5 I/O (io), J22 I/O (io), J23 I/O (io), J24 I/O (io), J25 I/O (io), K2 I/O (io), K3 I/O (io), K4 I/O (io), K5 I/O (io), K22 I/O (io), K23 I/O (io), K24 I/O (io), K25 I/O (io), K26 I/O (io), L2 I/O (io), L3 I/O (io), L4 I/O (io), L5 I/O (io), L22 I/O (io), L23 I/O (io), L24 I/O (io), L25 I/O (io), M3 I/O (io), M4 I/O (io), M5 I/O (io), M23 I/O (io), M24 I/O (io), M25 I/O (io), N2 I/O (io), N3 I/O (io), N4 I/O (io), N5 I/O (io), N22 I/O (io), N24 I/O (io), N25 I/O (io), N26 I/O (io), P2 I/O (io), P3 I/O (io), P4 I/O (io), P5 I/O (io), P22 I/O (io), P23 I/O (io), P24 I/O (io), P25 I/O (io), R1 I/O (io), R2 I/O (io), R3 I/O (io), R4 I/O (io), R5 I/O (io), R22 I/O (io), R23 I/O (io), R24 I/O (io), R25 I/O (io), T2 I/O (io), T3 I/O (io), T4 I/O (io), T5 I/O (io), T22 I/O (io), T23 I/O (io), T24 I/O (io), T25 I/O (io), T26 I/O (io), U2 I/O (io), U3 I/O (io), U4 I/O (io), U5 I/O (io), U22 I/O (io), U23 I/O (io), U24 I/O (io), U25 I/O (io), V1 I/O (io), V2 I/O (io), V3 I/O (io), V4 I/O (io), V5 I/O (io), V22 I/O (io), V23 I/O (io), V24 I/O (io), V25 I/O (io), W2 I/O (io), W3 I/O (io), W4 I/O (io), W23 I/O (io), W24 I/O (io), W25 I/O (io), W26 I/O (io), Y2 I/O (io), Y3 I/O (io), Y4 I/O (io), Y23 I/O (io), Y24 I/O (io), Y25 I/O (io)
part C pins: A1 VDDP (power), A2 VDDP (power), A25 VDDP (power), A26 VDDP (power), AA5 VDDL (power), AA22 VDDL (power), AB5 VDDL (power), AB6 VDDL (power), AB7 VDDL (power), AB20 VDDL (power), AB21 VDDL (power), AB22 VDDL (power), AC4 VDDP (power), AC23 VDDP (power), AD3 VDDP (power), AD22 VPP (power), AD24 VDDP (power), AE1 VDDP (power), AE2 VDDP (power), AE23 VPN (power), AE25 VDDP (power), AE26 VDDP (power), AF1 VDDP (power), AF2 VDDP (power), AF25 VDDP (power), AF26 VDDP (power), B1 VDDP (power), B2 VDDP (power), B25 VDDP (power), B26 VDDP (power), C1 VDDP (power), C3 VDDP (power), C24 VDDP (power), D4 VDDP (power), D23 VDDP (power), E5 VDDL (power), E6 VDDL (power), E7 VDDL (power), E8 VDDL (power), E20 VDDL (power), E21 VDDL (power), E22 VDDL (power), F5 VDDL (power), F22 VDDL (power), G5 VDDL (power), G22 VDDL (power), H5 VDDL (power), H22 VDDL (power), L11 GND (power), L12 GND (power), L13 GND (power), L14 GND (power), L15 GND (power), L16 GND (power), M11 GND (power), M12 GND (power), M13 GND (power), M14 GND (power), M15 GND (power), M16 GND (power), N11 GND (power), N12 GND (power), N13 GND (power), N14 GND (power), N15 GND (power), N16 GND (power), P11 GND (power), P12 GND (power), P13 GND (power), P14 GND (power), P15 GND (power), P16 GND (power), R11 GND (power), R12 GND (power), R13 GND (power), R14 GND (power), R15 GND (power), R16 GND (power), T11 GND (power), T12 GND (power), T13 GND (power), T14 GND (power), T15 GND (power), T16 GND (power), W5 VDDL (power), W22 VDDL (power), Y5 VDDL (power), Y22 VDDL (power)
part D pins: A3 NC, A6 NC, A8 NC, A9 NC, A11 NC, A12 NC, A14 NC, A15 NC, A17 NC, A18 NC, A20 NC, A21 NC, A23 NC, A24 NC, AA26 NC, AB1 NC, AC26 NC, AD1 NC, AD26 NC, AF3 NC, AF4 NC, AF6 NC, AF7 NC, AF9 NC, AF10 NC, AF12 NC, AF13 NC, AF15 NC, AF16 NC, AF18 NC, AF19 NC, AF21 NC, AF24 NC, C26 NC, D1 NC, E1 NC, F26 NC, G1 NC, H1 NC, H26 NC, J26 NC, K1 NC, L1 NC, L26 NC, M26 NC, N1 NC, P1 NC, P26 NC, R26 NC, T1 NC, U1 NC, U26 NC, V26 NC, W1 NC, Y1 NC, Y26 NC

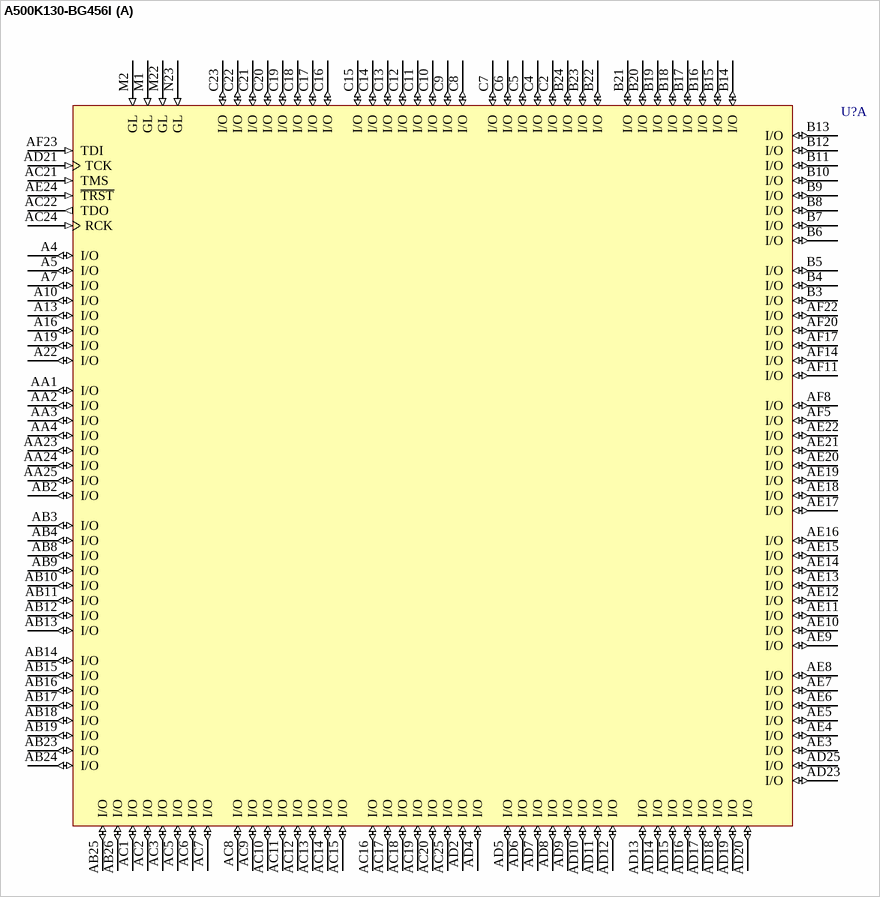
[diagram p9: symbol A500K130-BG456I]

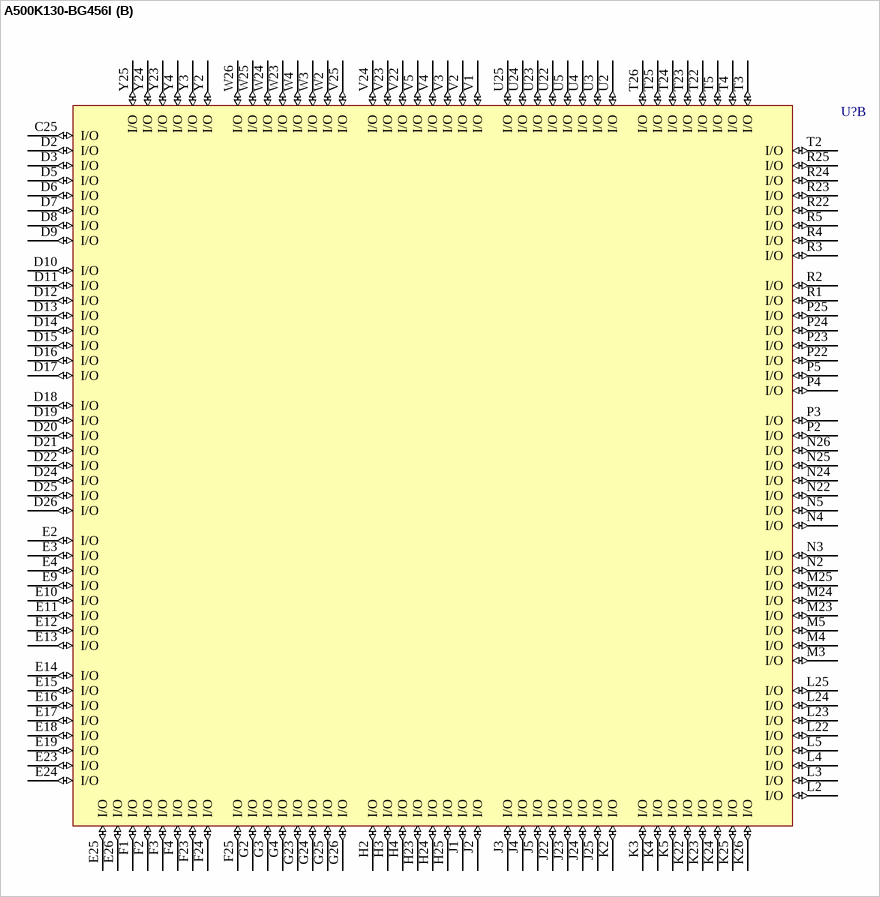
[diagram p10: symbol A500K130-BG456I]

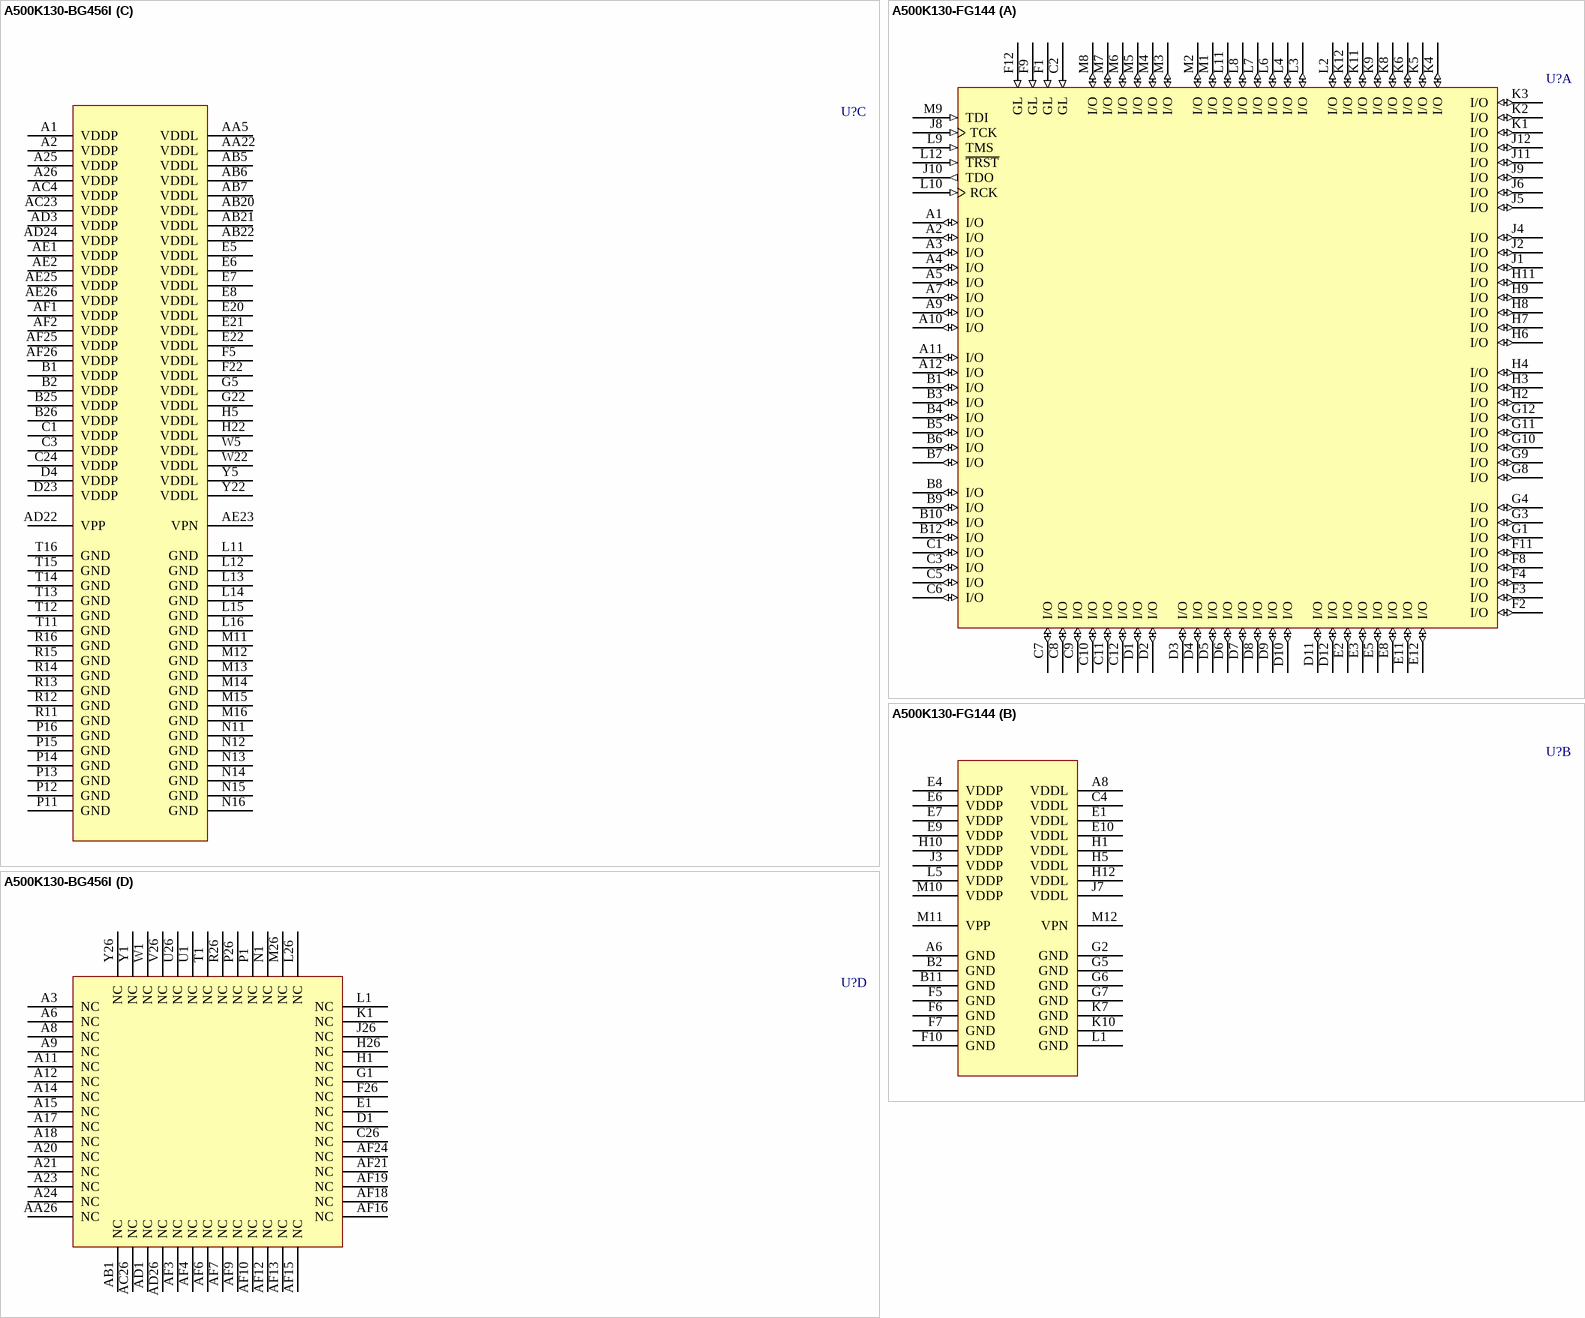
[diagram p11: symbols A500K130-BG456I to A500K130-FG144]

## A500K130-BG456I
designator U?
ProASIC 500K130, 306 User IOs, 456-Ball PBGA, Speed Grade Standard, Industrial Grade; ComponentAvailability: ProASIC 500K family discontinued.; Published: 21-May-2003; LatestRevisionDate: 13-Apr-2006; LatestRevisionNote: IPC-7351 Footprint Added.; DatasheetVersion: v3.0, Feb-2002; PackageVersion: ver11.2, Nov-2009; PackageReference: BG456; Publisher: Altium Limited; PackageDescription: 456-Ball Plastic Ball Grid Array (BG456); Code_JEDEC: MS-034-BAR-2; ComponentLink1Description: ProASIC Datasheet; ComponentLink1URL: http://www.actel.com/documents/ProASIC_DS.pdf; ComponentLink2Description: Package Mechanical Drawings; ComponentLink2URL: http://www.actel.com/documents/PckgMechDrwngs.pdf; ComponentLink3Description: ProASIC Documents; ComponentLink3URL: http://www.actel.com/products/discontinued/default.aspx#proasic; ComponentLink4Description: Actel.com Home; ComponentLink4URL: http://www.actel.com/
footprint BG456 (BGA, 456-Leads, Body 35x35mm, Pitch 1.27mm)
part A pins: A4 I/O (io), A5 I/O (io), A7 I/O (io), A10 I/O (io), A13 I/O (io), A16 I/O (io), A19 I/O (io), A22 I/O (io), AA1 I/O (io), AA2 I/O (io), AA3 I/O (io), AA4 I/O (io), AA23 I/O (io), AA24 I/O (io), AA25 I/O (io), AB2 I/O (io), AB3 I/O (io), AB4 I/O (io), AB8 I/O (io), AB9 I/O (io), AB10 I/O (io), AB11 I/O (io), AB12 I/O (io), AB13 I/O (io), AB14 I/O (io), AB15 I/O (io), AB16 I/O (io), AB17 I/O (io), AB18 I/O (io), AB19 I/O (io), AB23 I/O (io), AB24 I/O (io), AB25 I/O (io), AB26 I/O (io), AC1 I/O (io), AC2 I/O (io), AC3 I/O (io), AC5 I/O (io), AC6 I/O (io), AC7 I/O (io), AC8 I/O (io), AC9 I/O (io), AC10 I/O (io), AC11 I/O (io), AC12 I/O (io), AC13 I/O (io), AC14 I/O (io), AC15 I/O (io), AC16 I/O (io), AC17 I/O (io), AC18 I/O (io), AC19 I/O (io), AC20 I/O (io), AC21 TMS (in), AC22 TDO (out), AC24 RCK (in), AC25 I/O (io), AD2 I/O (io), AD4 I/O (io), AD5 I/O (io), AD6 I/O (io), AD7 I/O (io), AD8 I/O (io), AD9 I/O (io), AD10 I/O (io), AD11 I/O (io), AD12 I/O (io), AD13 I/O (io), AD14 I/O (io), AD15 I/O (io), AD16 I/O (io), AD17 I/O (io), AD18 I/O (io), AD19 I/O (io), AD20 I/O (io), AD21 TCK (in), AD23 I/O (io), AD25 I/O (io), AE3 I/O (io), AE4 I/O (io), AE5 I/O (io), AE6 I/O (io), AE7 I/O (io), AE8 I/O (io), AE9 I/O (io), AE10 I/O (io), AE11 I/O (io), AE12 I/O (io), AE13 I/O (io), AE14 I/O (io), AE15 I/O (io), AE16 I/O (io), AE17 I/O (io), AE18 I/O (io), AE19 I/O (io), AE20 I/O (io), AE21 I/O (io), AE22 I/O (io), AE24 ~{TRST} (in), AF5 I/O (io), AF8 I/O (io), AF11 I/O (io), AF14 I/O (io), AF17 I/O (io), AF20 I/O (io), AF22 I/O (io), AF23 TDI (in), B3 I/O (io), B4 I/O (io), B5 I/O (io), B6 I/O (io), B7 I/O (io), B8 I/O (io), B9 I/O (io), B10 I/O (io), B11 I/O (io), B12 I/O (io), B13 I/O (io), B14 I/O (io), B15 I/O (io), B16 I/O (io), B17 I/O (io), B18 I/O (io), B19 I/O (io), B20 I/O (io), B21 I/O (io), B22 I/O (io), B23 I/O (io), B24 I/O (io), C2 I/O (io), C4 I/O (io), C5 I/O (io), C6 I/O (io), C7 I/O (io), C8 I/O (io), C9 I/O (io), C10 I/O (io), C11 I/O (io), C12 I/O (io), C13 I/O (io), C14 I/O (io), C15 I/O (io), C16 I/O (io), C17 I/O (io), C18 I/O (io), C19 I/O (io), C20 I/O (io), C21 I/O (io), C22 I/O (io), C23 I/O (io), M1 GL (in), M2 GL (in), M22 GL (in), N23 GL (in)
part B pins: C25 I/O (io), D2 I/O (io), D3 I/O (io), D5 I/O (io), D6 I/O (io), D7 I/O (io), D8 I/O (io), D9 I/O (io), D10 I/O (io), D11 I/O (io), D12 I/O (io), D13 I/O (io), D14 I/O (io), D15 I/O (io), D16 I/O (io), D17 I/O (io), D18 I/O (io), D19 I/O (io), D20 I/O (io), D21 I/O (io), D22 I/O (io), D24 I/O (io), D25 I/O (io), D26 I/O (io), E2 I/O (io), E3 I/O (io), E4 I/O (io), E9 I/O (io), E10 I/O (io), E11 I/O (io), E12 I/O (io), E13 I/O (io), E14 I/O (io), E15 I/O (io), E16 I/O (io), E17 I/O (io), E18 I/O (io), E19 I/O (io), E23 I/O (io), E24 I/O (io), E25 I/O (io), E26 I/O (io), F1 I/O (io), F2 I/O (io), F3 I/O (io), F4 I/O (io), F23 I/O (io), F24 I/O (io), F25 I/O (io), G2 I/O (io), G3 I/O (io), G4 I/O (io), G23 I/O (io), G24 I/O (io), G25 I/O (io), G26 I/O (io), H2 I/O (io), H3 I/O (io), H4 I/O (io), H23 I/O (io), H24 I/O (io), H25 I/O (io), J1 I/O (io), J2 I/O (io), J3 I/O (io), J4 I/O (io), J5 I/O (io), J22 I/O (io), J23 I/O (io), J24 I/O (io), J25 I/O (io), K2 I/O (io), K3 I/O (io), K4 I/O (io), K5 I/O (io), K22 I/O (io), K23 I/O (io), K24 I/O (io), K25 I/O (io), K26 I/O (io), L2 I/O (io), L3 I/O (io), L4 I/O (io), L5 I/O (io), L22 I/O (io), L23 I/O (io), L24 I/O (io), L25 I/O (io), M3 I/O (io), M4 I/O (io), M5 I/O (io), M23 I/O (io), M24 I/O (io), M25 I/O (io), N2 I/O (io), N3 I/O (io), N4 I/O (io), N5 I/O (io), N22 I/O (io), N24 I/O (io), N25 I/O (io), N26 I/O (io), P2 I/O (io), P3 I/O (io), P4 I/O (io), P5 I/O (io), P22 I/O (io), P23 I/O (io), P24 I/O (io), P25 I/O (io), R1 I/O (io), R2 I/O (io), R3 I/O (io), R4 I/O (io), R5 I/O (io), R22 I/O (io), R23 I/O (io), R24 I/O (io), R25 I/O (io), T2 I/O (io), T3 I/O (io), T4 I/O (io), T5 I/O (io), T22 I/O (io), T23 I/O (io), T24 I/O (io), T25 I/O (io), T26 I/O (io), U2 I/O (io), U3 I/O (io), U4 I/O (io), U5 I/O (io), U22 I/O (io), U23 I/O (io), U24 I/O (io), U25 I/O (io), V1 I/O (io), V2 I/O (io), V3 I/O (io), V4 I/O (io), V5 I/O (io), V22 I/O (io), V23 I/O (io), V24 I/O (io), V25 I/O (io), W2 I/O (io), W3 I/O (io), W4 I/O (io), W23 I/O (io), W24 I/O (io), W25 I/O (io), W26 I/O (io), Y2 I/O (io), Y3 I/O (io), Y4 I/O (io), Y23 I/O (io), Y24 I/O (io), Y25 I/O (io)
part C pins: A1 VDDP (power), A2 VDDP (power), A25 VDDP (power), A26 VDDP (power), AA5 VDDL (power), AA22 VDDL (power), AB5 VDDL (power), AB6 VDDL (power), AB7 VDDL (power), AB20 VDDL (power), AB21 VDDL (power), AB22 VDDL (power), AC4 VDDP (power), AC23 VDDP (power), AD3 VDDP (power), AD22 VPP (power), AD24 VDDP (power), AE1 VDDP (power), AE2 VDDP (power), AE23 VPN (power), AE25 VDDP (power), AE26 VDDP (power), AF1 VDDP (power), AF2 VDDP (power), AF25 VDDP (power), AF26 VDDP (power), B1 VDDP (power), B2 VDDP (power), B25 VDDP (power), B26 VDDP (power), C1 VDDP (power), C3 VDDP (power), C24 VDDP (power), D4 VDDP (power), D23 VDDP (power), E5 VDDL (power), E6 VDDL (power), E7 VDDL (power), E8 VDDL (power), E20 VDDL (power), E21 VDDL (power), E22 VDDL (power), F5 VDDL (power), F22 VDDL (power), G5 VDDL (power), G22 VDDL (power), H5 VDDL (power), H22 VDDL (power), L11 GND (power), L12 GND (power), L13 GND (power), L14 GND (power), L15 GND (power), L16 GND (power), M11 GND (power), M12 GND (power), M13 GND (power), M14 GND (power), M15 GND (power), M16 GND (power), N11 GND (power), N12 GND (power), N13 GND (power), N14 GND (power), N15 GND (power), N16 GND (power), P11 GND (power), P12 GND (power), P13 GND (power), P14 GND (power), P15 GND (power), P16 GND (power), R11 GND (power), R12 GND (power), R13 GND (power), R14 GND (power), R15 GND (power), R16 GND (power), T11 GND (power), T12 GND (power), T13 GND (power), T14 GND (power), T15 GND (power), T16 GND (power), W5 VDDL (power), W22 VDDL (power), Y5 VDDL (power), Y22 VDDL (power)
part D pins: A3 NC, A6 NC, A8 NC, A9 NC, A11 NC, A12 NC, A14 NC, A15 NC, A17 NC, A18 NC, A20 NC, A21 NC, A23 NC, A24 NC, AA26 NC, AB1 NC, AC26 NC, AD1 NC, AD26 NC, AF3 NC, AF4 NC, AF6 NC, AF7 NC, AF9 NC, AF10 NC, AF12 NC, AF13 NC, AF15 NC, AF16 NC, AF18 NC, AF19 NC, AF21 NC, AF24 NC, C26 NC, D1 NC, E1 NC, F26 NC, G1 NC, H1 NC, H26 NC, J26 NC, K1 NC, L1 NC, L26 NC, M26 NC, N1 NC, P1 NC, P26 NC, R26 NC, T1 NC, U1 NC, U26 NC, V26 NC, W1 NC, Y1 NC, Y26 NC